# Altium schematic symbol library dungvh03-CERN_AnalogInterface.SchLib: 1053 symbols (part 2 of 12)
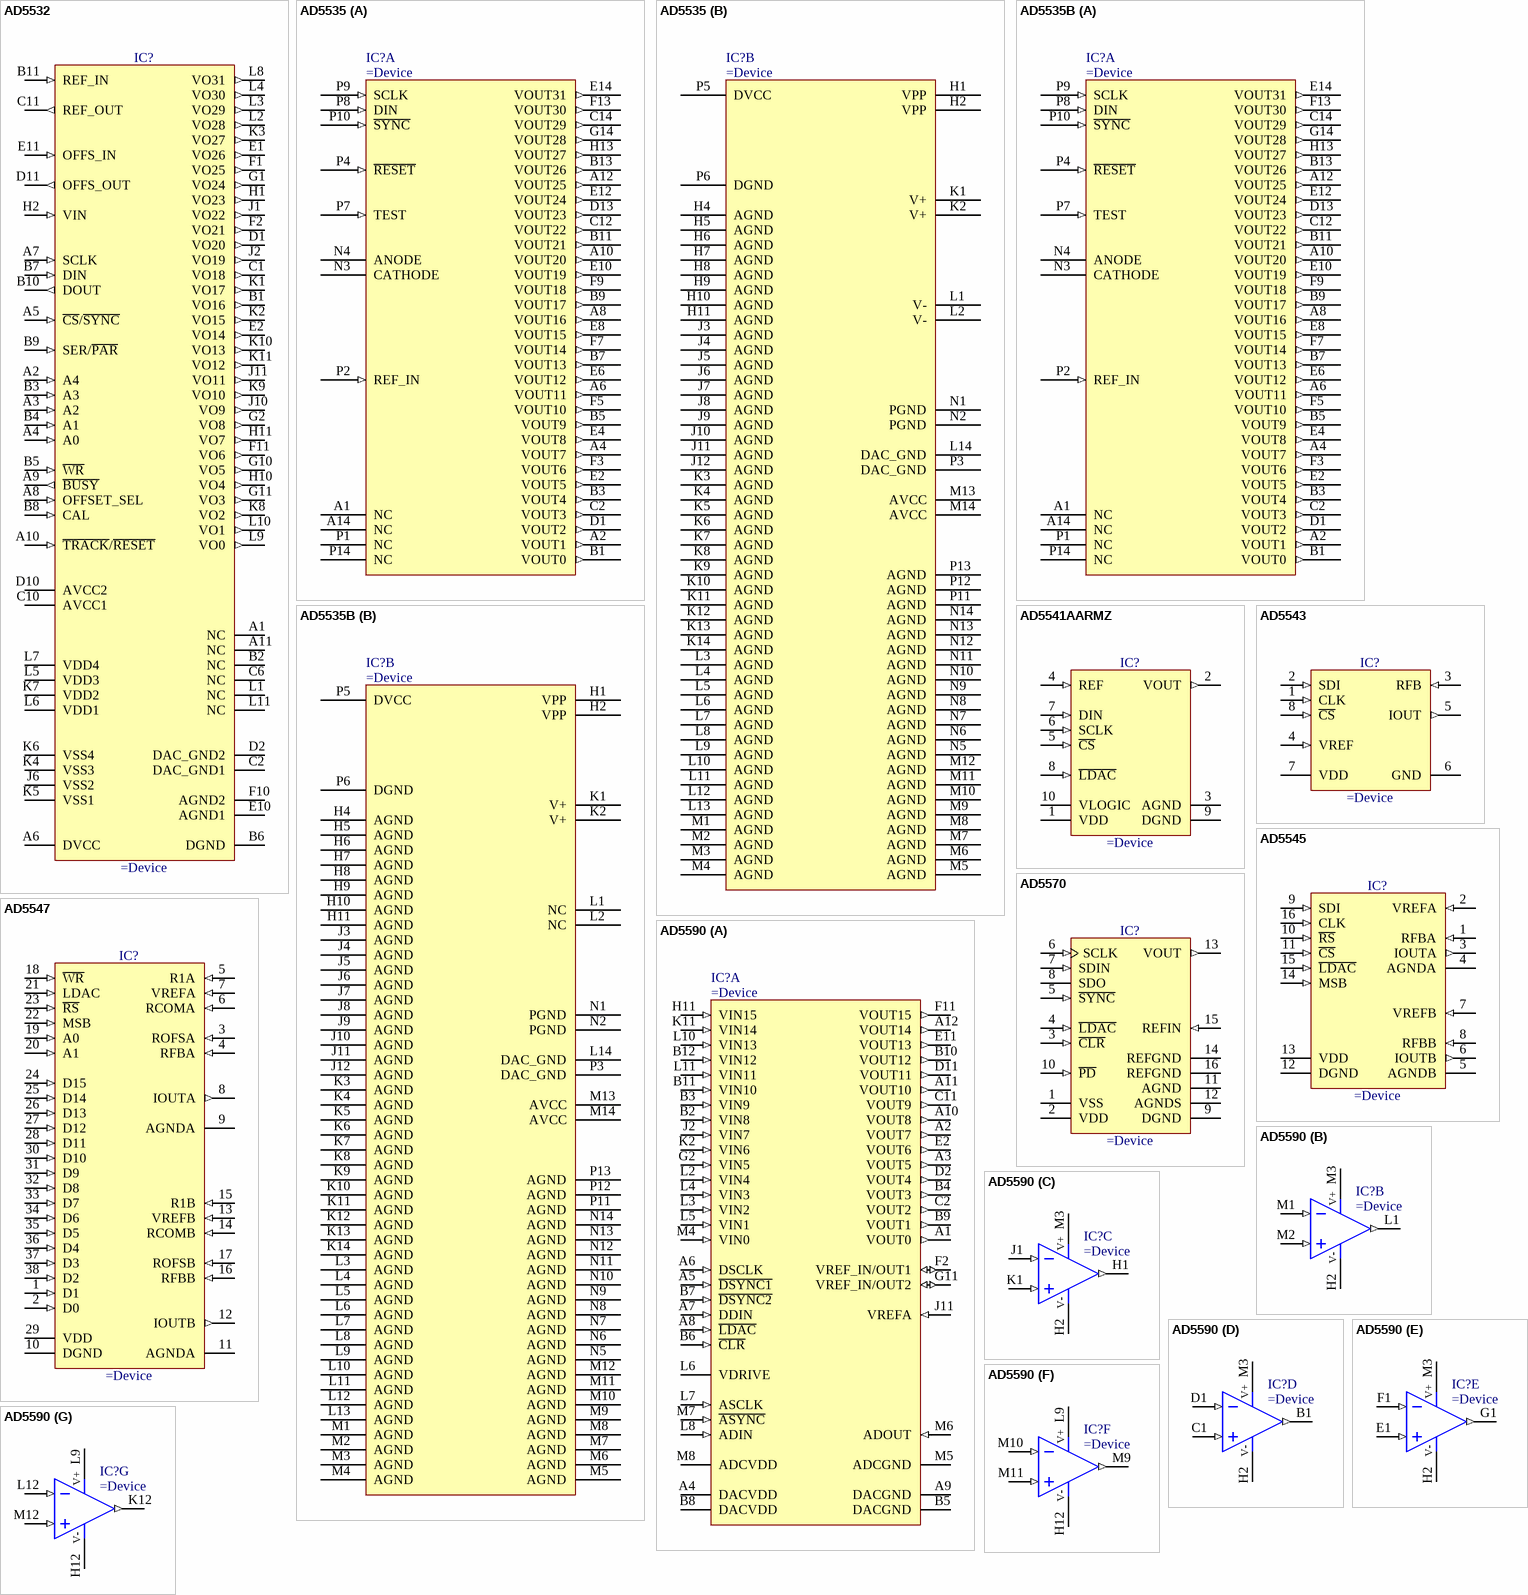
[diagram p68: symbols AD5532 to AD5590]

## AD5532
designator IC?
32-Channel, 14-Bit Voltage-Output DAC
pins: A1 NC, A2 A4 (in), A3 A2 (in), A4 A0 (in), A5 ~{CS}/~{SYNC} (in), A6 DVCC (power), A7 SCLK (in), A8 OFFSET_SEL (in), A9 ~{BUSY} (out), A10 ~{TRACK}/~{RESET} (in), A11 NC, B1 VO16 (out), B2 NC, B3 A3 (in), B4 A1 (in), B5 ~{WR} (in), B6 DGND (power), B7 DIN (in), B8 CAL (in), B9 SER/~{PAR} (in), B10 DOUT (out), B11 REF_IN (in), C1 VO18 (out), C2 DAC_GND1 (power), C6 NC, C10 AVCC1 (power), C11 REF_OUT (out), D1 VO20 (out), D2 DAC_GND2 (power), D10 AVCC2 (power), D11 OFFS_OUT (out), E1 VO26 (out), E2 VO14 (out), E10 AGND1 (power), E11 OFFS_IN (in), F1 VO25 (out), F2 VO21 (out), F10 AGND2 (power), F11 VO6 (out), G1 VO24 (out), G2 VO8 (out), G10 VO5 (out), G11 VO3 (out), H1 VO23 (out), H2 VIN (in), H10 VO4 (out), H11 VO7 (out), J1 VO22 (out), J2 VO19 (out), J6 VSS2 (power), J10 VO9 (out), J11 VO11 (out), K1 VO17 (out), K2 VO15 (out), K3 VO27 (out), K4 VSS3 (power), K5 VSS1 (power), K6 VSS4 (power), K7 VDD2 (power), K8 VO2 (out), K9 VO10 (out), K10 VO13 (out), K11 VO12 (out), L1 NC, L2 VO28 (out), L3 VO29 (out), L4 VO30 (out), L5 VDD3 (power), L6 VDD1 (power), L7 VDD4 (power), L8 VO31 (out), L9 VO0 (out), L10 VO1 (out), L11 NC

## AD5535
designator IC?
32-Channel, 14-Bit DAC with Full-Scale Output Voltage Programmable from 50V to 200V
part A pins: A1 NC, A2 VOUT1 (out), A4 VOUT7 (out), A6 VOUT11 (out), A8 VOUT16 (out), A10 VOUT20 (out), A12 VOUT25 (out), A14 NC, B1 VOUT0 (out), B3 VOUT4 (out), B5 VOUT9 (out), B7 VOUT13 (out), B9 VOUT17 (out), B11 VOUT21 (out), B13 VOUT26 (out), C2 VOUT3 (out), C12 VOUT22 (out), C14 VOUT29 (out), D1 VOUT2 (out), D13 VOUT23 (out), E2 VOUT5 (out), E4 VOUT8 (out), E6 VOUT12 (out), E8 VOUT15 (out), E10 VOUT19 (out), E12 VOUT24 (out), E14 VOUT31 (out), F3 VOUT6 (out), F5 VOUT10 (out), F7 VOUT14 (out), F9 VOUT18 (out), F13 VOUT30 (out), G14 VOUT28 (out), H13 VOUT27 (out), N3 CATHODE, N4 ANODE, P1 NC, P2 REF_IN (in), P4 ~{RESET} (in), P7 TEST (in), P8 DIN (in), P9 SCLK (in), P10 ~{SYNC} (in), P14 NC
part B pins: H1 VPP (power), H2 VPP (power), H4 AGND (power), H5 AGND (power), H6 AGND (power), H7 AGND (power), H8 AGND (power), H9 AGND (power), H10 AGND (power), H11 AGND (power), J3 AGND (power), J4 AGND (power), J5 AGND (power), J6 AGND (power), J7 AGND (power), J8 AGND (power), J9 AGND (power), J10 AGND (power), J11 AGND (power), J12 AGND (power), K1 V+ (power), K2 V+ (power), K3 AGND (power), K4 AGND (power), K5 AGND (power), K6 AGND (power), K7 AGND (power), K8 AGND (power), K9 AGND (power), K10 AGND (power), K11 AGND (power), K12 AGND (power), K13 AGND (power), K14 AGND (power), L1 V- (power), L2 V- (power), L3 AGND (power), L4 AGND (power), L5 AGND (power), L6 AGND (power), L7 AGND (power), L8 AGND (power), L9 AGND (power), L10 AGND (power), L11 AGND (power), L12 AGND (power), L13 AGND (power), L14 DAC_GND (power), M1 AGND (power), M2 AGND (power), M3 AGND (power), M4 AGND (power), M5 AGND (power), M6 AGND (power), M7 AGND (power), M8 AGND (power), M9 AGND (power), M10 AGND (power), M11 AGND (power), M12 AGND (power), M13 AVCC (power), M14 AVCC (power), N1 PGND (power), N2 PGND (power), N5 AGND (power), N6 AGND (power), N7 AGND (power), N8 AGND (power), N9 AGND (power), N10 AGND (power), N11 AGND (power), N12 AGND (power), N13 AGND (power), N14 AGND (power), P3 DAC_GND (power), P5 DVCC (power), P6 DGND (power), P11 AGND (power), P12 AGND (power), P13 AGND (power)

## AD5535B
designator IC?
32-Channel, 14-Bit DAC with Full-Scale Output Voltage Programmable from 50V to 200V
part A pins: A1 NC, A2 VOUT1 (out), A4 VOUT7 (out), A6 VOUT11 (out), A8 VOUT16 (out), A10 VOUT20 (out), A12 VOUT25 (out), A14 NC, B1 VOUT0 (out), B3 VOUT4 (out), B5 VOUT9 (out), B7 VOUT13 (out), B9 VOUT17 (out), B11 VOUT21 (out), B13 VOUT26 (out), C2 VOUT3 (out), C12 VOUT22 (out), C14 VOUT29 (out), D1 VOUT2 (out), D13 VOUT23 (out), E2 VOUT5 (out), E4 VOUT8 (out), E6 VOUT12 (out), E8 VOUT15 (out), E10 VOUT19 (out), E12 VOUT24 (out), E14 VOUT31 (out), F3 VOUT6 (out), F5 VOUT10 (out), F7 VOUT14 (out), F9 VOUT18 (out), F13 VOUT30 (out), G14 VOUT28 (out), H13 VOUT27 (out), N3 CATHODE, N4 ANODE, P1 NC, P2 REF_IN (in), P4 ~{RESET} (in), P7 TEST (in), P8 DIN (in), P9 SCLK (in), P10 ~{SYNC} (in), P14 NC
part B pins: H1 VPP (power), H2 VPP (power), H4 AGND (power), H5 AGND (power), H6 AGND (power), H7 AGND (power), H8 AGND (power), H9 AGND (power), H10 AGND (power), H11 AGND (power), J3 AGND (power), J4 AGND (power), J5 AGND (power), J6 AGND (power), J7 AGND (power), J8 AGND (power), J9 AGND (power), J10 AGND (power), J11 AGND (power), J12 AGND (power), K1 V+ (power), K2 V+ (power), K3 AGND (power), K4 AGND (power), K5 AGND (power), K6 AGND (power), K7 AGND (power), K8 AGND (power), K9 AGND (power), K10 AGND (power), K11 AGND (power), K12 AGND (power), K13 AGND (power), K14 AGND (power), L1 NC, L2 NC, L3 AGND (power), L4 AGND (power), L5 AGND (power), L6 AGND (power), L7 AGND (power), L8 AGND (power), L9 AGND (power), L10 AGND (power), L11 AGND (power), L12 AGND (power), L13 AGND (power), L14 DAC_GND (power), M1 AGND (power), M2 AGND (power), M3 AGND (power), M4 AGND (power), M5 AGND (power), M6 AGND (power), M7 AGND (power), M8 AGND (power), M9 AGND (power), M10 AGND (power), M11 AGND (power), M12 AGND (power), M13 AVCC (power), M14 AVCC (power), N1 PGND (power), N2 PGND (power), N5 AGND (power), N6 AGND (power), N7 AGND (power), N8 AGND (power), N9 AGND (power), N10 AGND (power), N11 AGND (power), N12 AGND (power), N13 AGND (power), N14 AGND (power), P3 DAC_GND (power), P5 DVCC (power), P6 DGND (power), P11 AGND (power), P12 AGND (power), P13 AGND (power)

## AD5541AARMZ
designator IC?
2.7 V to 5.5 V, Serial-Input, Voltage Output, Unbuffered 16-Bit DAC
pins: 1 VDD (power), 2 VOUT (out), 3 AGND (power), 4 REF (in), 5 ~{CS} (in), 6 SCLK (in), 7 DIN (in), 8 ~{LDAC} (in), 9 DGND (power), 10 VLOGIC (power)

## AD5543
designator IC?
Current Output/Serial Input, 16-Bit DAC
pins: 1 CLK (in), 2 SDI (in), 3 RFB (in), 4 VREF (in), 5 IOUT (out), 6 GND (power), 7 VDD (power), 8 ~{CS} (in)

## AD5545
designator IC?
Dual, Current-Output, Serial-Input, 16-Bit DAC
pins: 1 RFBA (in), 2 VREFA (in), 3 IOUTA (out), 4 AGNDA (power), 5 AGNDB (power), 6 IOUTB (out), 7 VREFB (in), 8 RFBB (in), 9 SDI (in), 10 ~{RS} (in), 11 ~{CS} (in), 12 DGND (power), 13 VDD (power), 14 MSB (in), 15 ~{LDAC} (in), 16 CLK (in)

## AD5547
designator IC?
Dual-Current Output, Parallel Input, 16-Bit Multiplying DAC with 4-Quadrant Resistors
pins: 1 D1 (in), 2 D0 (in), 3 ROFSA (in), 4 RFBA (in), 5 R1A (in), 6 RCOMA (in), 7 VREFA (in), 8 IOUTA (out), 9 AGNDA (power), 10 DGND (power), 11 AGNDA (power), 12 IOUTB (out), 13 VREFB (in), 14 RCOMB (in), 15 R1B (in), 16 RFBB (in), 17 ROFSB (in), 18 ~{WR} (in), 19 A0 (in), 20 A1 (in), 21 LDAC (in), 22 MSB (in), 23 ~{RS} (in), 24 D15 (in), 25 D14 (in), 26 D13 (in), 27 D12 (in), 28 D11 (in), 29 VDD (power), 30 D10 (in), 31 D9 (in), 32 D8 (in), 33 D7 (in), 34 D6 (in), 35 D5 (in), 36 D4 (in), 37 D3 (in), 38 D2 (in)

## AD5570
designator IC?
True Accuracy, 16-Bit ±12V/±15V, Serial Input Voltage Output DAC
pins: 1 VSS (power) "Negative Analog Supply Voltage. -12 V +/- 5% to -15 V +/- 10% for specified performance", 2 VDD (power) "Positive Analog Supply Voltage. 12 V +/- 5% to 15 V +/- 10% for specified performance", 3 ~{CLR} (in) "Level Sensitive, Active Low Input. A falling edge of C\L\R\ resets VOUT to AGND. The contents of the registers are untouched.", 4 ~{LDAC} (in) "Active Low Control Input. Transfers the contents of the input register to the DAC register. L\D\A\C\ can be tied permanently low, enabling the outputs to be updated on the rising edge of S\Y\N\C\.", 5 ~{SYNC} (in) "Active Low Control Input. This is the frame synchronization signal for the data. When S\Y\N\C\ goes low, it powers on the SCLK and SDIN buffers and enables the input shift register. Data is transferred in on the falling (See Datasheet)", 6 SCLK (in) "Serial Clock Input. Data is clocked into the input register on the falling edge of the serial clock input. Data can be transferred at rates of up to 8 MHz.", 7 SDIN (in) "Serial Data Input. Data is clocked into the 16-bit register on the falling edge of the serial clock input.", 8 SDO (oc) "Serial Data Output. Can be used for daisy-chaining a number of devices together or for reading back the data in the shift register for diagnostic purposes. This is an open-drain output; it must be pulled to logic high with (See Datasheet)", 9 DGND (power) "Digital Ground. Ground reference for all digital circuitry.", 10 ~{PD} (in) "Active Low Control Input. Allows the DAC to be put into a power-down state.", 11 AGND (power) "Analog Ground. Ground reference for all analog circuitry.", 12 AGNDS (power) "Analog Ground Sense. This is normally tied to AGND.", 13 VOUT (out) "Analog Output Voltage.", 14 REFGND (power) "Reference Ground. Tie this pin to 0 V.", 15 REFIN (in) "Voltage Reference Input. This is internally buffered before being applied to the DAC. For bipolar +/-10 V output range, REFIN is 5 V.", 16 REFGND (power) "Reference Ground. Tie this pin to 0 V."

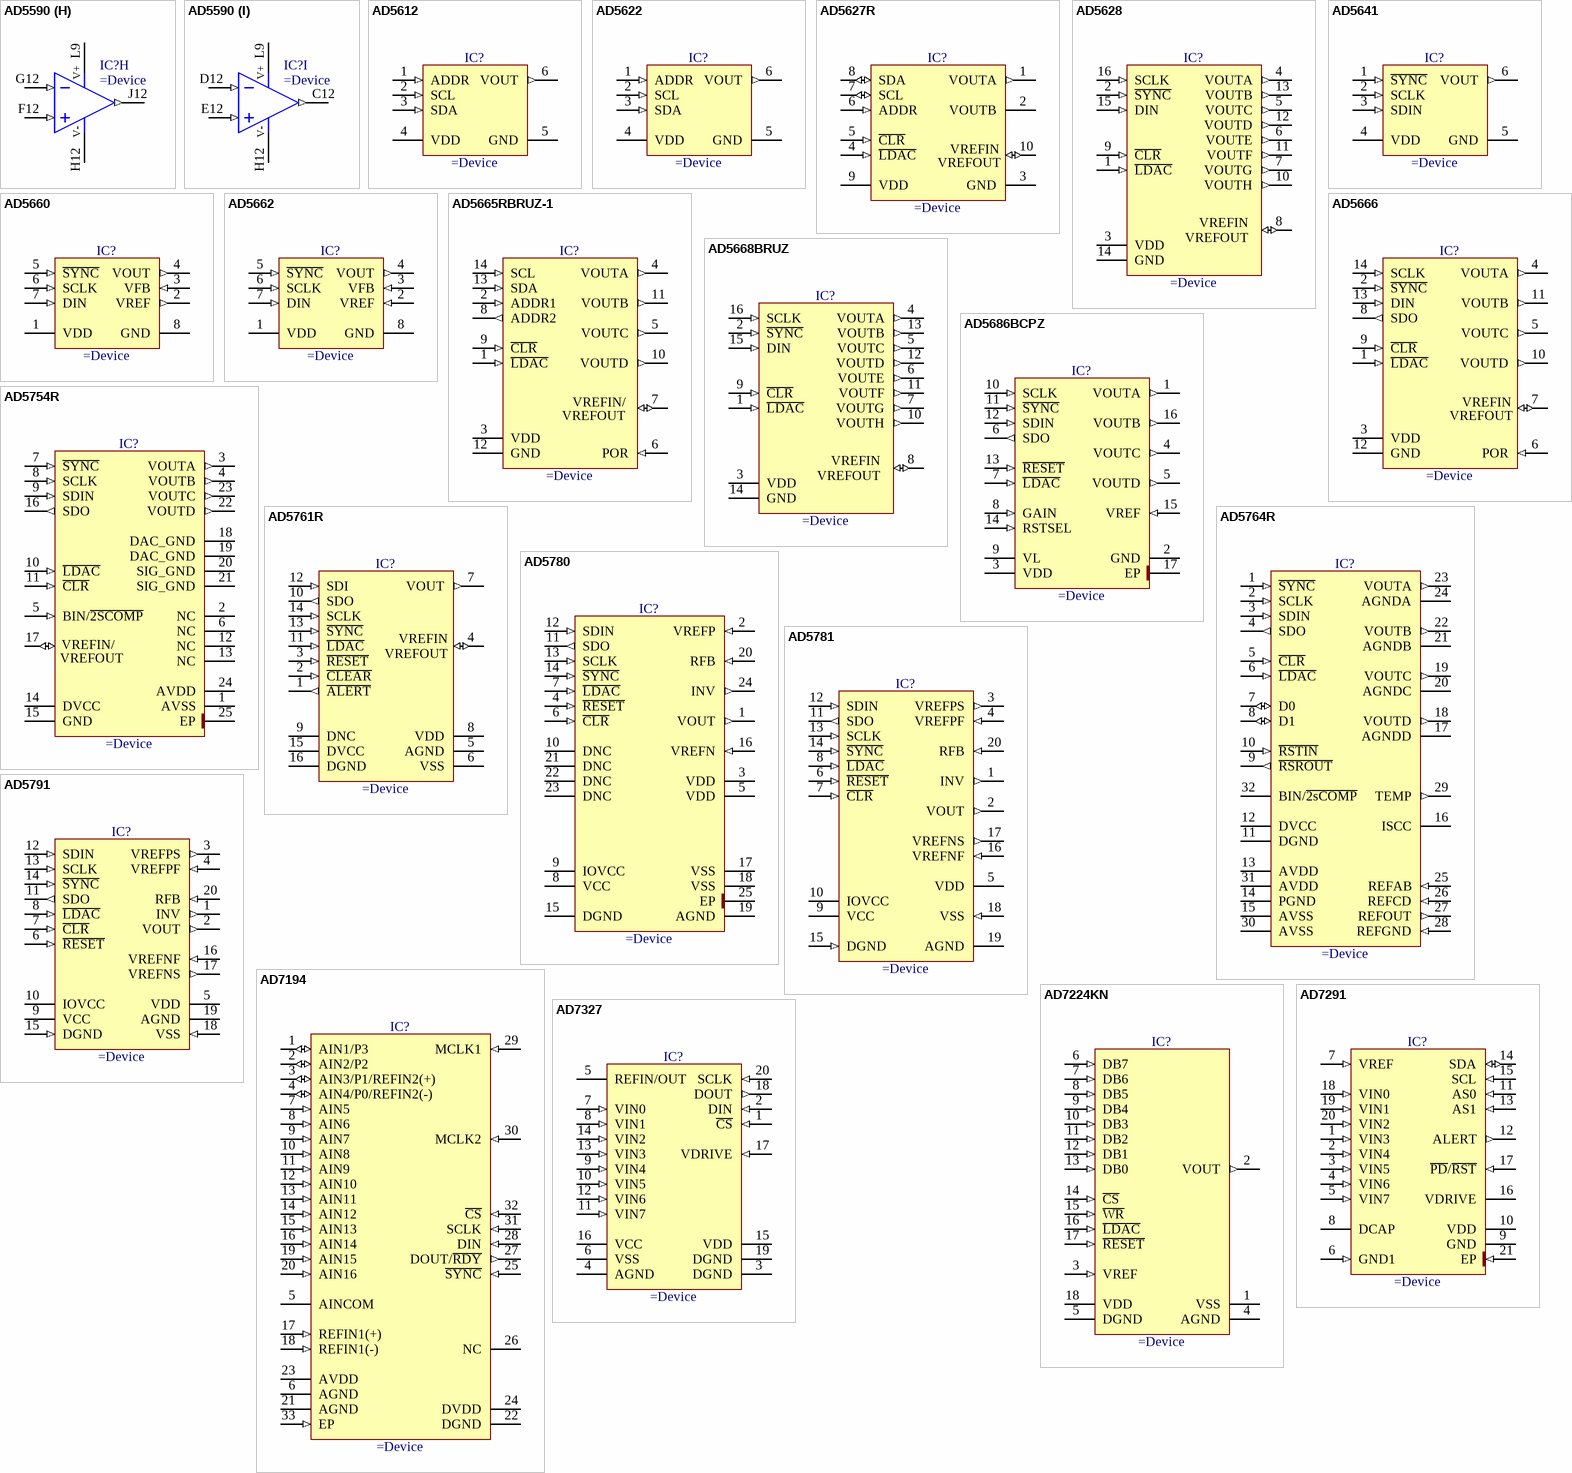
[diagram p5: symbols AD5590 to AD7327]

## AD5590
designator IC?
16 Input, 16 Output Analog I/O Port With Integrated Amplifiers
part A pins: A1 VOUT0 (out), A2 VOUT7 (out), A3 VOUT5 (out), A4 DACVDD (power), A5 ~{DSYNC1} (in), A6 DSCLK (in), A7 DDIN (in), A8 ~{LDAC} (in), A9 DACGND (power), A10 VOUT8 (out), A11 VOUT10 (out), A12 VOUT14 (out), B2 VIN8 (in), B3 VIN9 (in), B4 VOUT3 (out), B5 DACGND (power), B6 ~{CLR} (in), B7 ~{DSYNC2} (in), B8 DACVDD (power), B9 VOUT1 (out), B10 VOUT12 (out), B11 VIN10 (in), B12 VIN12 (in), C2 VOUT2 (out), C11 VOUT9 (out), D2 VOUT4 (out), D11 VOUT11 (out), E2 VOUT6 (out), E11 VOUT13 (out), F2 VREF_IN/OUT1 (io), F11 VOUT15 (out), G2 VIN5 (in), G11 VREF_IN/OUT2 (io), H11 VIN15 (in), J2 VIN7 (in), J11 VREFA (in), K2 VIN6 (in), K11 VIN14 (in), L2 VIN4 (in), L3 VIN2 (in), L4 VIN3 (in), L5 VIN1 (in), L6 VDRIVE (power), L7 ASCLK (in), L8 ADIN (in), L10 VIN13 (in), L11 VIN11 (in), M4 VIN0 (in), M5 ADCGND (power), M6 ADOUT (in), M7 ~{ASYNC} (in), M8 ADCVDD (power)
part B pins: H2 V1- (power), L1 OUT (out), M1 IN- (in), M2 IN+ (in), M3 V1+ (power)
part C pins: H1 OUT (out), H2 V1- (power), J1 IN- (in), K1 IN+ (in), M3 V1+ (power)
part D pins: B1 OUT (out), C1 IN+ (in), D1 IN- (in), H2 V1- (power), M3 V1+ (power)
part E pins: E1 IN+ (in), F1 IN- (in), G1 OUT (out), H2 V1- (power), M3 V1+ (power)
part F pins: H12 V2- (power), L9 V2+ (power), M9 OUT (out), M10 IN- (in), M11 IN+ (in)
part G pins: H12 V2- (power), K12 OUT (out), L9 V2+ (power), L12 IN- (in), M12 IN+ (in)
part H pins: F12 IN+ (in), G12 IN- (in), H12 V2- (power), J12 OUT (out), L9 V2+ (power)
part I pins: C12 OUT (out), D12 IN- (in), E12 IN+ (in), H12 V2- (power), L9 V2+ (power)
part B text: V+; V-
part C text: V+; V-
part D text: V+; V-
part E text: V+; V-
part F text: V+; V-
part G text: V+; V-
part H text: V+; V-
part I text: V+; V-

## AD5612
designator IC?
2.7 V to 5.5 V, <100 µA, 10-Bit nanoDAC, With I2C®-Compatible Interface
pins: 1 ADDR (in), 2 SCL (in), 3 SDA (in), 4 VDD (power), 5 GND (power), 6 VOUT (out)

## AD5622
designator IC?
2.7 V to 5.5 V, <100 µA, 12-Bit nanoDAC, With I2C®-Compatible Interface
pins: 1 ADDR (in), 2 SCL (in), 3 SDA (in), 4 VDD (power), 5 GND (power), 6 VOUT (out)

## AD5627R
designator IC?
Dual, 12-/14-/16-Bit nanoDACs® with 5 ppm/°C On-Chip Reference, I2C Interface
pins: 1 VOUTA (out), 2 VOUTB (power), 3 GND (power), 4 ~{LDAC} (in), 5 ~{CLR} (in), 6 ADDR (in), 7 SCL (io), 8 SDA (io), 9 VDD (power), 10 VREFIN/VREFOUT (io)
text: VREFIN; VREFOUT

## AD5628
designator IC?
Octal, 12-Bit SPI Voltage Output denseDAC with 5 ppm/°C On-Chip Reference
pins: 1 ~{LDAC} (in), 2 ~{SYNC} (in), 3 VDD (power), 4 VOUTA (out), 5 VOUTC (out), 6 VOUTE (out), 7 VOUTG (out), 8 VREFIN/VREFOUT (io), 9 ~{CLR} (in), 10 VOUTH (out), 11 VOUTF (out), 12 VOUTD (out), 13 VOUTB (out), 14 GND (power), 15 DIN (in), 16 SCLK (in)
text: VREFIN; VREFOUT

## AD5641
designator IC?
2.7 V to 5.5 V, <100 µA, 14-Bit nanoDAC, SPI Interface
pins: 1 ~{SYNC} (in), 2 SCLK (in), 3 SDIN (in), 4 VDD (power), 5 GND (power), 6 VOUT (out)

## AD5660
designator IC?
Single, 16-Bit nanoDAC with 5ppm/°C On-Chip Reference
pins: 1 VDD (power), 2 VREF (out), 3 VFB (in), 4 VOUT (out), 5 ~{SYNC} (in), 6 SCLK (in), 7 DIN (in), 8 GND (power)

## AD5662
designator IC?
2.7V to 5.5V, 250uA, Rail-to-Rail Output 16-Bit nanoDAC
pins: 1 VDD (power), 2 VREF (in), 3 VFB (in), 4 VOUT (out), 5 ~{SYNC} (in), 6 SCLK (in), 7 DIN (in), 8 GND (power)

## AD5665RBRUZ-1
designator IC?
Quad, 16-Bit DAC with 5 ppm/°C On-Chip Reference, I2C Interface
pins: 1 ~{LDAC} (in), 2 ADDR1 (in), 3 VDD (power), 4 VOUTA (out), 5 VOUTC (out), 6 POR (in), 7 VREFIN/VREFOUT (io), 8 ADDR2 (out), 9 ~{CLR} (in), 10 VOUTD (out), 11 VOUTB (out), 12 GND (power), 13 SDA (in), 14 SCL (in)
text: VREFIN/; VREFOUT

## AD5666
designator IC?
Quad, 16-Bit DAC with 5 ppm/°C On-Chip Reference
pins: 1 ~{LDAC} (in), 2 ~{SYNC} (in), 3 VDD (power), 4 VOUTA (out), 5 VOUTC (out), 6 POR (in), 7 VREFIN/VREFOUT (io), 8 SDO (out), 9 ~{CLR} (in), 10 VOUTD (out), 11 VOUTB (out), 12 GND (power), 13 DIN (in), 14 SCLK (in)
text: VREFIN; VREFOUT

## AD5668BRUZ
designator IC?
Octal, 16-Bit, SPI Voltage Output denseDAC with 5ppm/°C, On-Chip Reference
pins: 1 ~{LDAC} (in), 2 ~{SYNC} (in), 3 VDD (power), 4 VOUTA (out), 5 VOUTC (out), 6 VOUTE (out), 7 VOUTG (out), 8 VREFIN/VREFOUT (io), 9 ~{CLR} (in), 10 VOUTH (out), 11 VOUTF (out), 12 VOUTD (out), 13 VOUTB (out), 14 GND (power), 15 DIN (in), 16 SCLK (in)
text: VREFIN; VREFOUT

## AD5686BCPZ
designator IC?
Quad, 16-Bit nanoDAC+ with SPI Interface
pins: 1 VOUTA (out), 2 GND (power), 3 VDD (power), 4 VOUTC (out), 5 VOUTD (out), 6 SDO (out), 7 ~{LDAC} (in), 8 GAIN (in), 9 VL (power), 10 SCLK (in), 11 ~{SYNC} (in), 12 SDIN (in), 13 ~{RESET} (in), 14 RSTSEL (in), 15 VREF (in), 16 VOUTB (out), 17 EP (power)

## AD5754R
designator IC?
Complete, Quad, 16-Bit Serial Input Unipolar/Bipolar Voltage Outputs DAC
pins: 1 AVSS (power), 2 NC, 3 VOUTA (out), 4 VOUTB (out), 5 BIN/~{2SCOMP} (in), 6 NC, 7 ~{SYNC} (in), 8 SCLK (in), 9 SDIN (in), 10 ~{LDAC} (in), 11 ~{CLR} (in), 12 NC, 13 NC, 14 DVCC (power), 15 GND (power), 16 SDO (out), 17 REFIN/REFOUT (io), 18 DAC_GND (power), 19 DAC_GND (power), 20 SIG_GND (power), 21 SIG_GND (power), 22 VOUTD (out), 23 VOUTC (out), 24 AVDD (power), 25 EP (power)
text: VREFIN/; VREFOUT

## AD5761R
designator IC?
16-Bit, Bipolar/Unipolar Voltage Output DACs with 2 ppm/°C Reference
pins: 1 ~{ALERT} (out), 2 ~{CLEAR} (in), 3 ~{RESET} (in), 4 VREFIN/VREFOUT (io), 5 AGND (power), 6 VSS (power), 7 VOUT (out), 8 VDD (power), 9 DNC, 10 SDO (out), 11 ~{LDAC} (in), 12 SDI (in), 13 ~{SYNC} (in), 14 SCLK (in), 15 DVCC (power), 16 DGND (power)
text: VREFIN; VREFOUT

## AD5764R
designator IC?
Complete Quad, 16-Bit, High Accuracy, Serial Input, Bipolar Voltage Output DAC
pins: 1 ~{SYNC} (in), 2 SCLK (in), 3 SDIN (in), 4 SDO (out), 5 ~{CLR} (in), 6 ~{LDAC} (in), 7 D0 (io), 8 D1 (io), 9 ~{RSROUT} (out), 10 ~{RSTIN} (in), 11 DGND (power), 12 DVCC (power), 13 AVDD (power), 14 PGND (power), 15 AVSS (power), 16 ISCC (power), 17 AGNDD (power), 18 VOUTD (out), 19 VOUTC (out), 20 AGNDC (power), 21 AGNDB (power), 22 VOUTB (out), 23 VOUTA (out), 24 AGNDA (power), 25 REFAB (in), 26 REFCD (in), 27 REFOUT (out), 28 REFGND (in), 29 TEMP (out), 30 AVSS (power), 31 AVDD (power), 32 BIN/~{2sCOMP} (power)

## AD5780
designator IC?
System Ready, 18-Bit ±1 LSB INL, Voltage Output DAC
pins: 1 VOUT (out), 2 VREFP (in), 3 VDD (power), 4 ~{RESET} (in), 5 VDD (power), 6 ~{CLR} (in), 7 ~{LDAC} (in), 8 VCC (power), 9 IOVCC (power), 10 DNC, 11 SDO (out), 12 SDIN (in), 13 SCLK (in), 14 ~{SYNC} (in), 15 DGND (power), 16 VREFN (in), 17 VSS (power), 18 VSS (power), 19 AGND (power), 20 RFB (in), 21 DNC, 22 DNC, 23 DNC, 24 INV (out), 25 EP (power)

## AD5781
designator IC?
True 18-Bit, ±0.5 LSB INL, ±0.5 LSB DNL, Voltage Output DAC
pins: 1 INV (out), 2 VOUT (out), 3 VREFPS (out), 4 VREFPF (in), 5 VDD (power), 6 ~{RESET} (in), 7 ~{CLR} (in), 8 ~{LDAC} (in), 9 VCC (power), 10 IOVCC (power), 11 SDO (out), 12 SDIN (in), 13 SCLK (in), 14 ~{SYNC} (in), 15 DGND (in), 16 VREFNF (in), 17 VREFNS (out), 18 VSS (in), 19 AGND (power), 20 RFB (in)

## AD5791
designator IC?
1 ppm 20-Bit, ±1 LSB INL, Voltage Output DAC
pins: 1 INV (out), 2 VOUT (out), 3 VREFPS (out), 4 VREFPF (in), 5 VDD (power), 6 ~{RESET} (in), 7 ~{CLR} (in), 8 ~{LDAC} (in), 9 VCC (power), 10 IOVCC (power), 11 SDO (out), 12 SDIN (in), 13 SCLK (in), 14 ~{SYNC} (in), 15 DGND (in), 16 VREFNF (in), 17 VREFNS (out), 18 VSS (in), 19 AGND (power), 20 RFB (in)

## AD7194
designator IC?
8-Channel, 4.8 kHz, Ultralow Noise, 24-Bit Sigma-Delta ADC with PGA
pins: 1 AIN1/P3 (io), 2 AIN2/P2 (io), 3 AIN3/P1/REFIN2(+) (io), 4 AIN4/P0/REFIN2(-) (io), 5 AINCOM (power), 6 AGND (power), 7 AIN5 (in), 8 AIN6 (in), 9 AIN7 (in), 10 AIN8 (in), 11 AIN9 (in), 12 AIN10 (in), 13 AIN11 (in), 14 AIN12 (in), 15 AIN13 (in), 16 AIN14 (in), 17 REFIN1(+) (in), 18 REFIN1(-) (in), 19 AIN15 (in), 20 AIN16 (in), 21 AGND (power), 22 DGND (power), 23 AVDD (power), 24 DVDD (power), 25 ~{SYNC} (in), 26 NC, 27 DOUT/~{RDY} (out), 28 DIN (in), 29 MCLK1 (in), 30 MCLK2 (in), 31 SCLK (in), 32 ~{CS} (in), 33 EP (in)

## AD7224KN
designator IC?
LC2MOS 8-Bit DAC with Output Amplifiers
pins: 1 VSS (power), 2 VOUT (out), 3 VREF (in), 4 AGND (power), 5 DGND (power), 6 DB7 (in), 7 DB6 (in), 8 DB5 (in), 9 DB4 (in), 10 DB3 (in), 11 DB2 (in), 12 DB1 (in), 13 DB0 (in), 14 ~{CS} (in), 15 ~{WR} (in), 16 ~{LDAC} (in), 17 ~{RESET} (in), 18 VDD (power)

## AD7291
designator IC?
8-Channel, I2C, 12-Bit SAR ADC with Temperature Sensor
pins: 1 VIN3 (in), 2 VIN4 (in), 3 VIN5 (in), 4 VIN6 (in), 5 VIN7 (in), 6 GND1 (in), 7 VREF (in), 8 DCAP, 9 GND (power), 10 VDD (power), 11 AS0 (in), 12 ALERT (out), 13 AS1 (in), 14 SDA (io), 15 SCL (in), 16 VDRIVE (power), 17 ~{PD}/~{RST} (in), 18 VIN0 (in), 19 VIN1 (in), 20 VIN2 (in), 21 EP (in)

## AD7327
designator IC?
500 kSPS, 8-Channel, Software-Selectable, True Bipolar Input, 12-Bit Plus Sign ADC
pins: 1 ~{CS} (in), 2 DIN (in), 3 DGND (power), 4 AGND (power), 5 REFIN/OUT, 6 VSS (power), 7 VIN0 (in), 8 VIN1 (in), 9 VIN4 (in), 10 VIN5 (in), 11 VIN7 (in), 12 VIN6 (in), 13 VIN3 (in), 14 VIN2 (in), 15 VDD (power), 16 VCC (power), 17 VDRIVE (in), 18 DOUT (out), 19 DGND (power), 20 SCLK (in)

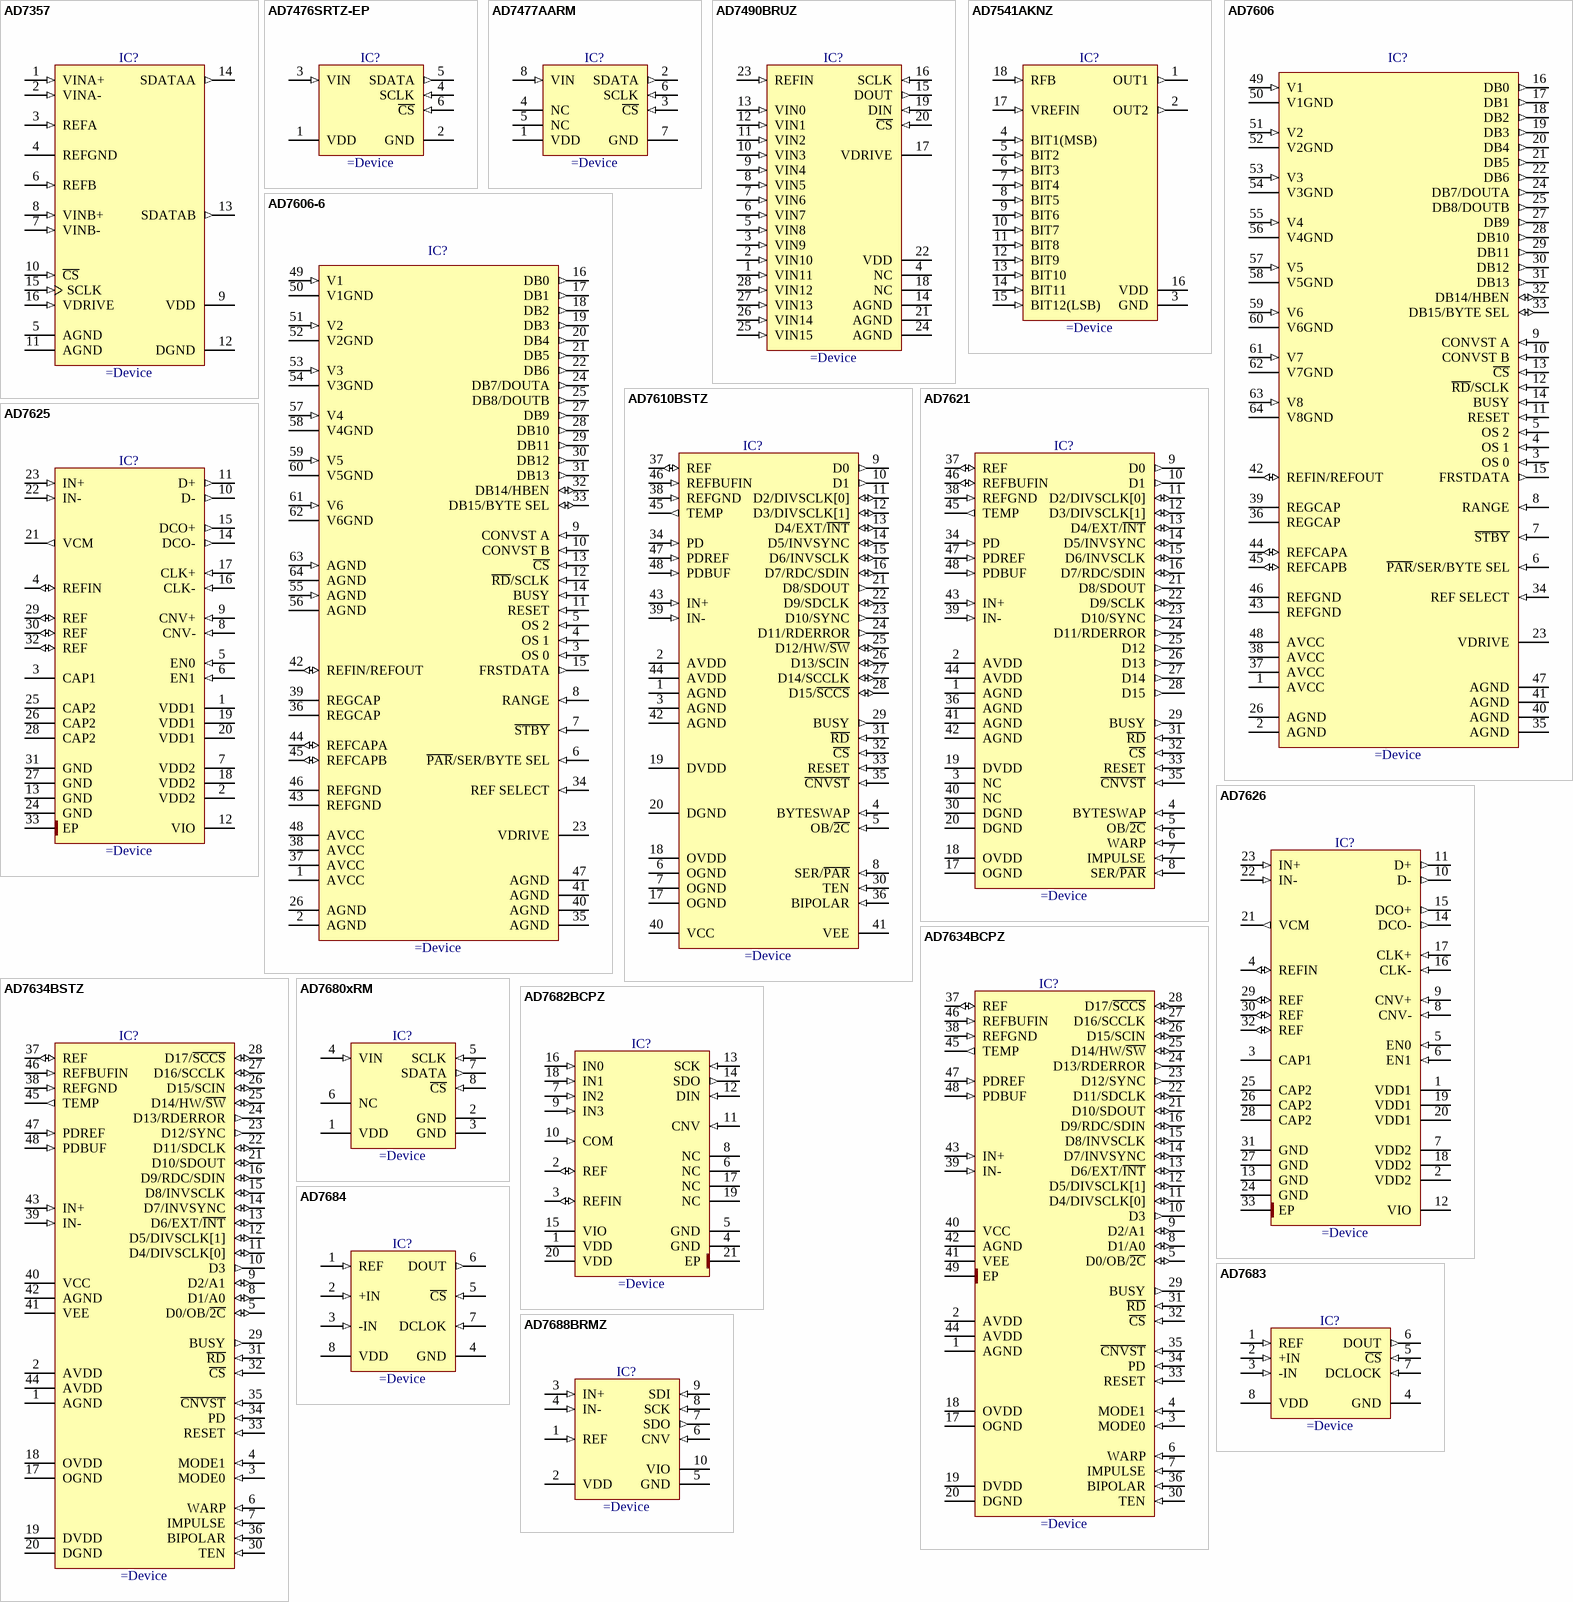
[diagram p6: symbols AD7357 to AD7688BRMZ]

## AD7357
designator IC?
Differential Input, Dual, Simultaneaous Sampling, 4.2 MSPS, 14-bit, SAR ADC
pins: 1 VINA+ (in), 2 VINA- (in), 3 REFA (in), 4 REFGND (power), 5 AGND (power), 6 REFB (in), 7 VINB- (in), 8 VINB+ (in), 9 VDD (power), 10 ~{CS} (in), 11 AGND (power), 12 DGND (power), 13 SDATAB (out), 14 SDATAA (out), 15 SCLK (in), 16 VDRIVE (in)

## AD7476SRTZ-EP
designator IC?
12-Bit ADC in 6-Lead SOT-23
pins: 1 VDD (power), 2 GND (power), 3 VIN (in), 4 SCLK (in), 5 SDATA (out), 6 ~{CS} (in)

## AD7477AARM
designator IC?
2.35V to 5.25V, 1 MSPS, 10-Bit ADC  (INL: ±0.5 LSB Max)
pins: 1 VDD (power), 2 SDATA (out), 3 ~{CS} (in), 4 NC, 5 NC, 6 SCLK (in), 7 GND (power), 8 VIN (in)

## AD7490BRUZ
designator IC?
16-Channel, 1 MSPS, 12-Bit ADC With Sequencer
pins: 1 VIN11 (in), 2 VIN10 (in), 3 VIN9 (in), 4 NC, 5 VIN8 (in), 6 VIN7 (in), 7 VIN6 (in), 8 VIN5 (in), 9 VIN4 (in), 10 VIN3 (in), 11 VIN2 (in), 12 VIN1 (in), 13 VIN0 (in), 14 AGND (power), 15 DOUT (out), 16 SCLK (in), 17 VDRIVE (power), 18 NC, 19 DIN (in), 20 ~{CS} (in), 21 AGND (power), 22 VDD (power), 23 REFIN (in), 24 AGND (power), 25 VIN15 (in), 26 VIN14 (in), 27 VIN13 (in), 28 VIN12 (in)

## AD7541AKNZ
designator IC?
12-Bit Monolithic Multiplying DAC
pins: 1 OUT1 (out), 2 OUT2 (out), 3 GND (power), 4 BIT1(MSB) (in), 5 BIT2 (in), 6 BIT3 (in), 7 BIT4 (in), 8 BIT5 (in), 9 BIT6 (in), 10 BIT7 (in), 11 BIT8 (in), 12 BIT9 (in), 13 BIT10 (in), 14 BIT11 (in), 15 BIT12(LSB) (in), 16 VDD (power), 17 VREFIN (in), 18 RFB (in)

## AD7606
designator IC?
8-Channel DAS with 16-Bit, Bipolar Simultaneous Sampling ADC
pins: 1 AVCC (power), 2 AGND (power), 3 OS 0 (in), 4 OS 1 (in), 5 OS 2 (in), 6 ~{PAR}/SER/BYTE SEL (in), 7 ~{STBY} (in), 8 RANGE (in), 9 CONVST A (in), 10 CONVST B (in), 11 RESET (in), 12 ~{RD}/SCLK (in), 13 ~{CS} (in), 14 BUSY (in), 15 FRSTDATA (out), 16 DB0 (out), 17 DB1 (out), 18 DB2 (out), 19 DB3 (out), 20 DB4 (out), 21 DB5 (out), 22 DB6 (out), 23 VDRIVE (power), 24 DB7/DOUTA (out), 25 DB8/DOUTB (out), 26 AGND (power), 27 DB9 (out), 28 DB10 (out), 29 DB11 (out), 30 DB12 (out), 31 DB13 (out), 32 DB14/HBEN (io), 33 DB15/BYTE SEL (io), 34 REF SELECT (in), 35 AGND (power), 36 REGCAP (power), 37 AVCC (power), 38 AVCC (power), 39 REGCAP (power), 40 AGND (power), 41 AGND (power), 42 REFIN/REFOUT (io), 43 REFGND (power), 44 REFCAPA (io), 45 REFCAPB (io), 46 REFGND (power), 47 AGND (power), 48 AVCC (power), 49 V1 (in), 50 V1GND (power), 51 V2 (in), 52 V2GND (power), 53 V3 (in), 54 V3GND (power), 55 V4 (in), 56 V4GND (power), 57 V5 (in), 58 V5GND (power), 59 V6 (in), 60 V6GND (power), 61 V7 (in), 62 V7GND (power), 63 V8 (in), 64 V8GND (power)

## AD7606-6
designator IC?
6-Channel DAS with 16-Bit, Bipolar Simultaneous Sampling ADC
pins: 1 AVCC (power), 2 AGND (power), 3 OS 0 (in), 4 OS 1 (in), 5 OS 2 (in), 6 ~{PAR}/SER/BYTE SEL (in), 7 ~{STBY} (in), 8 RANGE (in), 9 CONVST A (in), 10 CONVST B (in), 11 RESET (in), 12 ~{RD}/SCLK (in), 13 ~{CS} (in), 14 BUSY (in), 15 FRSTDATA (out), 16 DB0 (out), 17 DB1 (out), 18 DB2 (out), 19 DB3 (out), 20 DB4 (out), 21 DB5 (out), 22 DB6 (out), 23 VDRIVE (power), 24 DB7/DOUTA (out), 25 DB8/DOUTB (out), 26 AGND (power), 27 DB9 (out), 28 DB10 (out), 29 DB11 (out), 30 DB12 (out), 31 DB13 (out), 32 DB14/HBEN (io), 33 DB15/BYTE SEL (io), 34 REF SELECT (in), 35 AGND (power), 36 REGCAP (power), 37 AVCC (power), 38 AVCC (power), 39 REGCAP (power), 40 AGND (power), 41 AGND (power), 42 REFIN/REFOUT (io), 43 REFGND (power), 44 REFCAPA (io), 45 REFCAPB (io), 46 REFGND (power), 47 AGND (power), 48 AVCC (power), 49 V1 (in), 50 V1GND (power), 51 V2 (in), 52 V2GND (power), 53 V3 (in), 54 V3GND (power), 55 AGND (in), 56 AGND (power), 57 V4 (in), 58 V4GND (power), 59 V5 (in), 60 V5GND (power), 61 V6 (in), 62 V6GND (power), 63 AGND (in), 64 AGND (power)

## AD7610BSTZ
designator IC?
16-Bit, 250 kSPS, Unipolar/Bipolar Programmable Input PulSAR® ADC
pins: 1 AGND (power), 2 AVDD (power), 3 AGND (power), 4 BYTESWAP (in), 5 OB/~{2C} (in), 6 OGND (power), 7 OGND (power), 8 SER/~{PAR} (in), 9 D0 (out), 10 D1 (out), 11 D2/DIVSCLK[0] (io), 12 D3/DIVSCLK[1] (io), 13 D4/EXT/~{INT} (io), 14 D5/INVSYNC (io), 15 D6/INVSCLK (io), 16 D7/RDC/SDIN (io), 17 OGND (power), 18 OVDD (power), 19 DVDD (power), 20 DGND (power), 21 D8/SDOUT (out), 22 D9/SDCLK (io), 23 D10/SYNC (out), 24 D11/RDERROR (out), 25 D12/HW/~{SW} (io), 26 D13/SCIN (io), 27 D14/SCCLK (io), 28 D15/~{SCCS} (io), 29 BUSY (out), 30 TEN (in), 31 ~{RD} (in), 32 ~{CS} (in), 33 RESET (in), 34 PD (in), 35 ~{CNVST} (in), 36 BIPOLAR (in), 37 REF (io), 38 REFGND (in), 39 IN- (in), 40 VCC (power), 41 VEE (power), 42 AGND (power), 43 IN+ (in), 44 AVDD (power), 45 TEMP (out), 46 REFBUFIN (in), 47 PDREF (in), 48 PDBUF (in)

## AD7621
designator IC?
16-Bit, 2 LSB INL, 3 MSPS PulSAR® ADC
pins: 1 AGND (power), 2 AVDD (power), 3 NC, 4 BYTESWAP (in), 5 OB/~{2C} (in), 6 WARP (in), 7 IMPULSE (in), 8 SER/~{PAR} (in), 9 D0 (out), 10 D1 (out), 11 D2/DIVSCLK[0] (io), 12 D3/DIVSCLK[1] (io), 13 D4/EXT/~{INT} (io), 14 D5/INVSYNC (io), 15 D6/INVSCLK (io), 16 D7/RDC/SDIN (io), 17 OGND (power), 18 OVDD (power), 19 DVDD (power), 20 DGND (power), 21 D8/SDOUT (out), 22 D9/SCLK (io), 23 D10/SYNC (out), 24 D11/RDERROR (out), 25 D12 (out), 26 D13 (out), 27 D14 (out), 28 D15 (out), 29 BUSY (out), 30 DGND (power), 31 ~{RD} (in), 32 ~{CS} (in), 33 RESET (in), 34 PD (in), 35 ~{CNVST} (in), 36 AGND (power), 37 REF (io), 38 REFGND (in), 39 IN- (in), 40 NC, 41 AGND (power), 42 AGND (power), 43 IN+ (in), 44 AVDD (power), 45 TEMP (out), 46 REFBUFIN (io), 47 PDREF (in), 48 PDBUF (in)

## AD7625
designator IC?
16-Bit, 6 MSPS, PulSAR Differential ADC
pins: 1 VDD1 (power), 2 VDD2 (power), 3 CAP1, 4 REFIN (io), 5 EN0 (in), 6 EN1 (in), 7 VDD2 (power), 8 CNV- (in), 9 CNV+ (in), 10 D- (out), 11 D+ (out), 12 VIO (power), 13 GND (power), 14 DCO- (out), 15 DCO+ (out), 16 CLK- (in), 17 CLK+ (in), 18 VDD2 (power), 19 VDD1 (power), 20 VDD1 (power), 21 VCM (out), 22 IN- (in), 23 IN+ (in), 24 GND (power), 25 CAP2, 26 CAP2, 27 GND (power), 28 CAP2, 29 REF (io), 30 REF (io), 31 GND (power), 32 REF (io), 33 EP (power)

## AD7626
designator IC?
16-Bit, 10 MSPS, PulSAR Differential ADC
pins: 1 VDD1 (power), 2 VDD2 (power), 3 CAP1, 4 REFIN (io), 5 EN0 (in), 6 EN1 (in), 7 VDD2 (power), 8 CNV- (in), 9 CNV+ (in), 10 D- (out), 11 D+ (out), 12 VIO (power), 13 GND (power), 14 DCO- (out), 15 DCO+ (out), 16 CLK- (in), 17 CLK+ (in), 18 VDD2 (power), 19 VDD1 (power), 20 VDD1 (power), 21 VCM (out), 22 IN- (in), 23 IN+ (in), 24 GND (power), 25 CAP2, 26 CAP2, 27 GND (power), 28 CAP2, 29 REF (io), 30 REF (io), 31 GND (power), 32 REF (io), 33 EP (power)

## AD7634BCPZ
designator IC?
18-Bit, 670 kSPS, Differential Programmable Input PulSAR® ADC
pins: 1 AGND (power), 2 AVDD (power), 3 MODE0 (in), 4 MODE1 (in), 5 D0/OB/~{2C} (io), 6 WARP (in), 7 IMPULSE (in), 8 D1/A0 (io), 9 D2/A1 (io), 10 D3 (out), 11 D4/DIVSCLK[0] (io), 12 D5/DIVSCLK[1] (io), 13 D6/EXT/~{INT} (io), 14 D7/INVSYNC (io), 15 D8/INVSCLK (io), 16 D9/RDC/SDIN (io), 17 OGND (power), 18 OVDD (power), 19 DVDD (power), 20 DGND (power), 21 D10/SDOUT (io), 22 D11/SDCLK (io), 23 D12/SYNC (out), 24 D13/RDERROR (out), 25 D14/HW/~{SW} (io), 26 D15/SCIN (io), 27 D16/SCCLK (io), 28 D17/~{SCCS} (io), 29 BUSY (out), 30 TEN (in), 31 ~{RD} (in), 32 ~{CS} (in), 33 RESET (in), 34 PD (in), 35 ~{CNVST} (in), 36 BIPOLAR (in), 37 REF (io), 38 REFGND (in), 39 IN- (in), 40 VCC (power), 41 VEE (power), 42 AGND (power), 43 IN+ (in), 44 AVDD (power), 45 TEMP (out), 46 REFBUFIN (in), 47 PDREF (in), 48 PDBUF (in), 49 EP (power)

## AD7634BSTZ
designator IC?
18-Bit, 670 kSPS, Differential Programmable Input PulSAR® ADC
pins: 1 AGND (power), 2 AVDD (power), 3 MODE0 (in), 4 MODE1 (in), 5 D0/OB/~{2C} (io), 6 WARP (in), 7 IMPULSE (in), 8 D1/A0 (io), 9 D2/A1 (io), 10 D3 (out), 11 D4/DIVSCLK[0] (io), 12 D5/DIVSCLK[1] (io), 13 D6/EXT/~{INT} (io), 14 D7/INVSYNC (io), 15 D8/INVSCLK (io), 16 D9/RDC/SDIN (io), 17 OGND (power), 18 OVDD (power), 19 DVDD (power), 20 DGND (power), 21 D10/SDOUT (io), 22 D11/SDCLK (io), 23 D12/SYNC (out), 24 D13/RDERROR (out), 25 D14/HW/~{SW} (io), 26 D15/SCIN (io), 27 D16/SCCLK (io), 28 D17/~{SCCS} (io), 29 BUSY (out), 30 TEN (in), 31 ~{RD} (in), 32 ~{CS} (in), 33 RESET (in), 34 PD (in), 35 ~{CNVST} (in), 36 BIPOLAR (in), 37 REF (io), 38 REFGND (in), 39 IN- (in), 40 VCC (power), 41 VEE (power), 42 AGND (power), 43 IN+ (in), 44 AVDD (power), 45 TEMP (out), 46 REFBUFIN (in), 47 PDREF (in), 48 PDBUF (in)

## AD7680xRM
designator IC?
3mW, 100kSPS, 16-Bit ADC
pins: 1 VDD (power), 2 GND (power), 3 GND (power), 4 VIN (in), 5 SCLK (in), 6 NC, 7 SDATA (out), 8 ~{CS} (in)

## AD7682BCPZ
designator IC?
16-Bit, 4-Channel, 250 kSPS PulSAR ADC
pins: 1 VDD (power), 2 REF (io), 3 REFIN (io), 4 GND (power), 5 GND (power), 6 NC, 7 IN2 (in), 8 NC, 9 IN3 (in), 10 COM (in), 11 CNV (in), 12 DIN (in), 13 SCK (in), 14 SDO (out), 15 VIO (power), 16 IN0 (in), 17 NC, 18 IN1 (in), 19 NC, 20 VDD (power), 21 EP (power)

## AD7683
designator IC?
16-Bit, 100 kSPS, Single-Ended,  PulSAR Analog-To-Digital Converter
pins: 1 REF (in), 2 +IN (in), 3 -IN (in), 4 GND (power), 5 ~{CS} (in), 6 DOUT (out), 7 DCLOCK (in), 8 VDD (power)

## AD7684
designator IC?
16-Bit, 100 kSPS PulSAR®, Differential ADC in MSOP
pins: 1 REF (in), 2 +IN (in), 3 -IN (in), 4 GND (power), 5 ~{CS} (in), 6 DOUT (out), 7 DCLOK (in), 8 VDD (power)

## AD7688BRMZ
designator IC?
16-Bit, 1.5 LSB INL, 500 kSPS PulSAR Differential ADC
pins: 1 REF (in), 2 VDD (power), 3 IN+ (in), 4 IN- (in), 5 GND (power), 6 CNV (in), 7 SDO (out), 8 SCK (in), 9 SDI (in), 10 VIO (power)

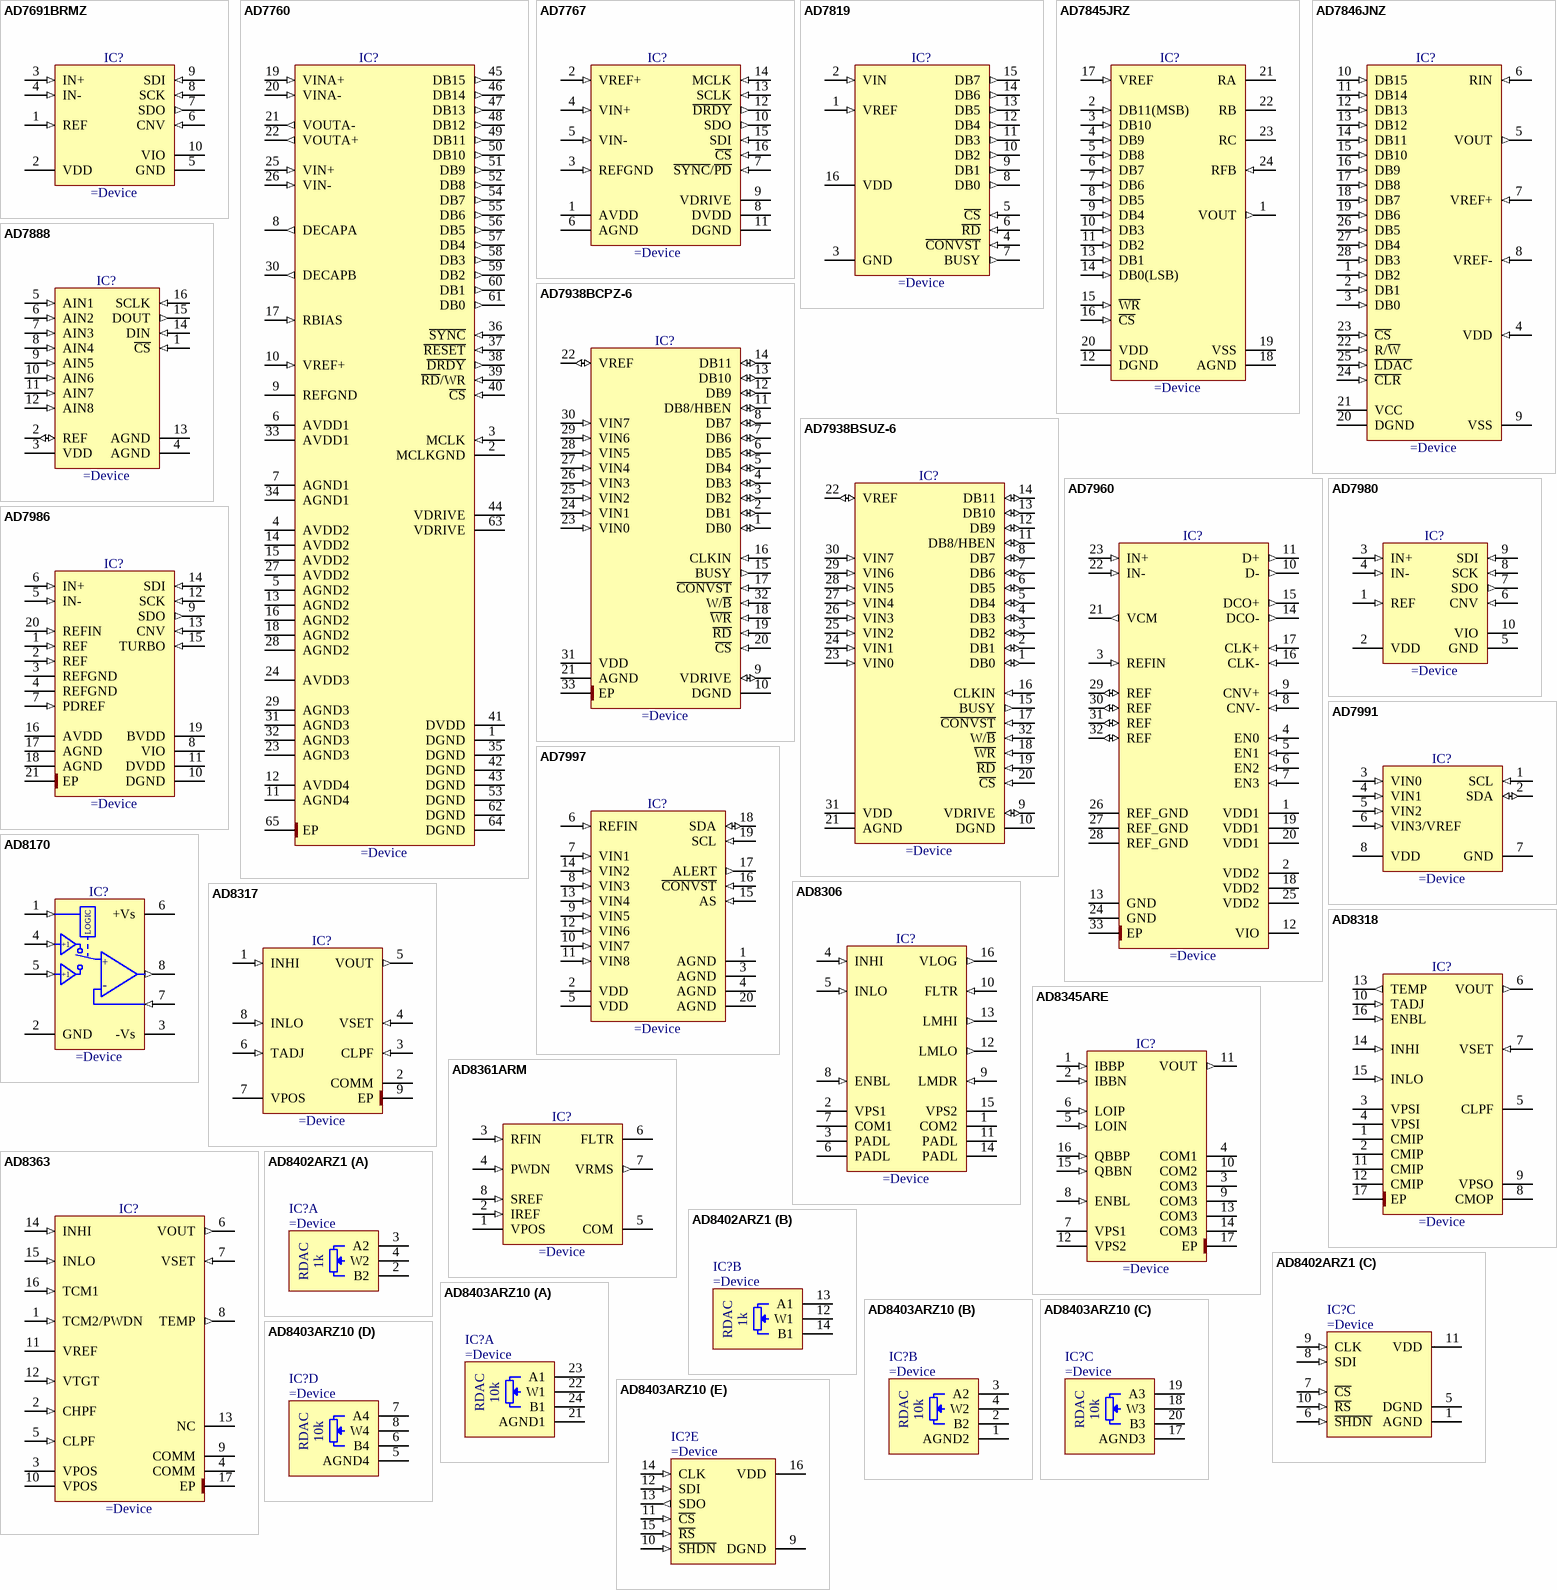
[diagram p7: symbols AD7691BRMZ to AD8403ARZ10]

## AD7691BRMZ
designator IC?
18-Bit, 1.5 LSB INL, 250 kSPS PulSAR Differential ADC
pins: 1 REF (in), 2 VDD (power), 3 IN+ (in), 4 IN- (in), 5 GND (power), 6 CNV (in), 7 SDO (out), 8 SCK (in), 9 SDI (in), 10 VIO (power)

## AD7760
designator IC?
2.5MSPS, 24-Bit, 100dB Sigma-Delta ADC With On-Chip Buffer
pins: 1 DGND (power), 2 MCLKGND (power), 3 MCLK (in), 4 AVDD2 (power), 5 AGND2 (power), 6 AVDD1 (power), 7 AGND1 (power), 8 DECAPA (out), 9 REFGND (power), 10 VREF+ (in), 11 AGND4 (power), 12 AVDD4 (power), 13 AGND2 (power), 14 AVDD2 (power), 15 AVDD2 (power), 16 AGND2 (power), 17 RBIAS (in), 18 AGND2 (power), 19 VINA+ (in), 20 VINA- (in), 21 VOUTA- (out), 22 VOUTA+ (out), 23 AGND3 (power), 24 AVDD3 (power), 25 VIN+ (in), 26 VIN- (in), 27 AVDD2 (power), 28 AGND2 (power), 29 AGND3 (power), 30 DECAPB (out), 31 AGND3 (power), 32 AGND3 (power), 33 AVDD1 (power), 34 AGND1 (power), 35 DGND (power), 36 ~{SYNC} (in), 37 ~{RESET} (in), 38 ~{DRDY} (out), 39 ~{RD}/WR (in), 40 ~{CS} (in), 41 DVDD (power), 42 DGND (power), 43 DGND (power), 44 VDRIVE (power), 45 DB15 (out), 46 DB14 (out), 47 DB13 (out), 48 DB12 (out), 49 DB11 (out), 50 DB10 (out), 51 DB9 (out), 52 DB8 (out), 53 DGND (power), 54 DB7 (out), 55 DB6 (out), 56 DB5 (out), 57 DB4 (out), 58 DB3 (out), 59 DB2 (out), 60 DB1 (out), 61 DB0 (out), 62 DGND (power), 63 VDRIVE (power), 64 DGND (power), 65 EP (power)

## AD7767
designator IC?
24-Bit, 8.5 mW, 109 dB, 128 kSPS ADC
pins: 1 AVDD (power), 2 VREF+ (in), 3 REFGND (in), 4 VIN+ (in), 5 VIN- (in), 6 AGND (power), 7 ~{SYNC}/~{PD} (in), 8 DVDD (power), 9 VDRIVE (power), 10 SDO (out), 11 DGND (power), 12 ~{DRDY} (out), 13 SCLK (in), 14 MCLK (in), 15 SDI (in), 16 ~{CS} (in)

## AD7819
designator IC?
2.7 V to 5.5 V, 200 kSPS 8-Bit Sampling ADC
pins: 1 VREF (in), 2 VIN (in), 3 GND (power), 4 ~{CONVST} (in), 5 ~{CS} (in), 6 ~{RD} (in), 7 BUSY (out), 8 DB0 (out), 9 DB1 (out), 10 DB2 (out), 11 DB3 (out), 12 DB4 (out), 13 DB5 (out), 14 DB6 (out), 15 DB7 (out), 16 VDD (power)

## AD7845JRZ
designator IC?
LC2MOS Complete 12-Bit Multiplying DAC
pins: 1 VOUT (out), 2 DB11(MSB) (in), 3 DB10 (in), 4 DB9 (in), 5 DB8 (in), 6 DB7 (in), 7 DB6 (in), 8 DB5 (in), 9 DB4 (in), 10 DB3 (in), 11 DB2 (in), 12 DGND (power), 13 DB1 (in), 14 DB0(LSB) (in), 15 ~{WR} (in), 16 ~{CS} (in), 17 VREF (in), 18 AGND (power), 19 VSS (power), 20 VDD (power), 21 RA, 22 RB, 23 RC, 24 RFB (in)

## AD7846JNZ
designator IC?
16-Bit Voltage Output DAC
pins: 1 DB2 (in), 2 DB1 (in), 3 DB0 (in), 4 VDD (in), 5 VOUT (out), 6 RIN (in), 7 VREF+ (in), 8 VREF- (in), 9 VSS (power), 10 DB15 (in), 11 DB14 (in), 12 DB13 (in), 13 DB12 (in), 14 DB11 (in), 15 DB10 (in), 16 DB9 (in), 17 DB8 (in), 18 DB7 (in), 19 DB6 (in), 20 DGND (power), 21 VCC (power), 22 R/~{W} (in), 23 ~{CS} (in), 24 ~{CLR} (in), 25 ~{LDAC} (in), 26 DB5 (in), 27 DB4 (in), 28 DB3 (in)

## AD7888
designator IC?
2.7 V to 5.25 V, Micro Power, 8-Channel, 125 kSPS, 12-Bit ADC
pins: 1 ~{CS} (in), 2 REF (io), 3 VDD (power), 4 AGND (power), 5 AIN1 (in), 6 AIN2 (in), 7 AIN3 (in), 8 AIN4 (in), 9 AIN5 (in), 10 AIN6 (in), 11 AIN7 (in), 12 AIN8 (in), 13 AGND (power), 14 DIN (in), 15 DOUT (out), 16 SCLK (in)

## AD7938BCPZ-6
designator IC?
8-Channel, 625 kSPS, 12-Bit Parallel ADCs with a Sequencer
pins: 1 DB0 (io), 2 DB1 (io), 3 DB2 (io), 4 DB3 (io), 5 DB4 (io), 6 DB5 (io), 7 DB6 (io), 8 DB7 (io), 9 VDRIVE (io), 10 DGND (power), 11 DB8/HBEN (io), 12 DB9 (io), 13 DB10 (io), 14 DB11 (io), 15 BUSY (out), 16 CLKIN (in), 17 ~{CONVST} (in), 18 ~{WR} (in), 19 ~{RD} (in), 20 ~{CS} (in), 21 AGND (power), 22 VREF (io), 23 VIN0 (in), 24 VIN1 (in), 25 VIN2 (in), 26 VIN3 (in), 27 VIN4 (in), 28 VIN5 (in), 29 VIN6 (in), 30 VIN7 (in), 31 VDD (power), 32 W/~{B} (in), 33 EP (power)

## AD7938BSUZ-6
designator IC?
8-Channel, 625 kSPS, 12-Bit Parallel ADCs with a Sequencer
pins: 1 DB0 (io), 2 DB1 (io), 3 DB2 (io), 4 DB3 (io), 5 DB4 (io), 6 DB5 (io), 7 DB6 (io), 8 DB7 (io), 9 VDRIVE (io), 10 DGND (power), 11 DB8/HBEN (io), 12 DB9 (io), 13 DB10 (io), 14 DB11 (io), 15 BUSY (out), 16 CLKIN (in), 17 ~{CONVST} (in), 18 ~{WR} (in), 19 ~{RD} (in), 20 ~{CS} (in), 21 AGND (power), 22 VREF (io), 23 VIN0 (in), 24 VIN1 (in), 25 VIN2 (in), 26 VIN3 (in), 27 VIN4 (in), 28 VIN5 (in), 29 VIN6 (in), 30 VIN7 (in), 31 VDD (power), 32 W/~{B} (in)

## AD7960
designator IC?
18-Bit, 5 MSPS, PulSAR Differential ADC
pins: 1 VDD1 (power), 2 VDD2 (power), 3 REFIN (in), 4 EN0 (in), 5 EN1 (in), 6 EN2 (in), 7 EN3 (in), 8 CNV- (in), 9 CNV+ (in), 10 D- (out), 11 D+ (out), 12 VIO (power), 13 GND (power), 14 DCO- (out), 15 DCO+ (out), 16 CLK- (in), 17 CLK+ (in), 18 VDD2 (power), 19 VDD1 (power), 20 VDD1 (power), 21 VCM (out), 22 IN- (in), 23 IN+ (in), 24 GND (power), 25 VDD2 (power), 26 REF_GND (power), 27 REF_GND (power), 28 REF_GND (power), 29 REF (io), 30 REF (io), 31 REF (io), 32 REF (io), 33 EP (power)

## AD7980
designator IC?
16-Bit, 1 MSPS PulSAR ADC
pins: 1 REF (in), 2 VDD (power), 3 IN+ (in), 4 IN- (in), 5 GND (power), 6 CNV (in), 7 SDO (out), 8 SCK (in), 9 SDI (in), 10 VIO (power)

## AD7986
designator IC?
18-Bit, 2MSPS PulSAR 15mW ADC
pins: 1 REF (in), 2 REF (in), 3 REFGND (power), 4 REFGND (power), 5 IN- (in), 6 IN+ (in), 7 PDREF (in), 8 VIO (power), 9 SDO (out), 10 DGND (power), 11 DVDD (power), 12 SCK (in), 13 CNV (in), 14 SDI (in), 15 TURBO (in), 16 AVDD (power), 17 AGND (power), 18 AGND (power), 19 BVDD (power), 20 REFIN (in), 21 EP (power)

## AD7991
designator IC?
4-Channel, 12-Bit ADC with I2C-Compatible Interface
pins: 1 SCL (in), 2 SDA (io), 3 VIN0 (in), 4 VIN1 (in), 5 VIN2 (in), 6 VIN3/VREF (in), 7 GND (power), 8 VDD (power)

## AD7997
designator IC?
8-Channel, 10-Bit ADCs with I2C-Compatible Interface
pins: 1 AGND (power), 2 VDD (power), 3 AGND (power), 4 AGND (power), 5 VDD (power), 6 REFIN (in), 7 VIN1 (in), 8 VIN3 (in), 9 VIN5 (in), 10 VIN7 (in), 11 VIN8 (in), 12 VIN6 (in), 13 VIN4 (in), 14 VIN2 (in), 15 AS (in), 16 ~{CONVST} (in), 17 ALERT (out), 18 SDA (io), 19 SCL (in), 20 AGND (power)

## AD8170
designator IC?
250 MHz, 10 ns Switching Multiplexers With Amplifier
pins: 1 SEL (in), 2 GND (power), 3 -Vs (power), 4 IN0 (in), 5 IN1 (in), 6 +Vs (power), 7 -VIN (in), 8 VOUT (out)
text: LOGIC; +1; +; -

## AD8306
designator IC?
5MHz–400MHz 100dB High Precision Limiting-Logarithmic Amplifier
pins: 1 COM2 (power), 2 VPS1 (power), 3 PADL (power), 4 INHI (in), 5 INLO (in), 6 PADL (power), 7 COM1 (power), 8 ENBL (in), 9 LMDR (in), 10 FLTR (in), 11 PADL (power), 12 LMLO (out), 13 LMHI (out), 14 PADL (power), 15 VPS2 (power), 16 VLOG (out)

## AD8317
designator IC?
1MHz to 10GHz, 55 dB Logarithmic Detector/Controller
pins: 1 INHI (in), 2 COMM (power), 3 CLPF (in), 4 VSET (in), 5 VOUT (out), 6 TADJ (in), 7 VPOS (power), 8 INLO (in), 9 EP (power)

## AD8318
designator IC?
1MHz to 8GHz, 70 dB Logarithmic Detector/Controller
pins: 1 CMIP (power), 2 CMIP (power), 3 VPSI (power), 4 VPSI (power), 5 CLPF, 6 VOUT (out), 7 VSET (in), 8 CMOP (power), 9 VPSO (power), 10 TADJ (in), 11 CMIP (power), 12 CMIP (power), 13 TEMP (out), 14 INHI (in), 15 INLO (in), 16 ENBL (in), 17 EP (power)

## AD8345ARE
designator IC?
140MHz to 1000MHz Quadrature Modulator
pins: 1 IBBP (in) "I Channel Baseband Differential Input Pins. These high impedance inputs should be dc-biased to approximately 0.7 V. Nominal characterized ac swing is 0.6 V p-p on each pin (0.4 V to 1 V). [see datasheet]", 2 IBBN (in) "I Channel Baseband Differential Input Pins. These high impedance inputs should be dc-biased to approximately 0.7 V. Nominal characterized ac swing is 0.6 V p-p on each pin (0.4 V to 1 V). [see datasheet]", 3 COM3 (power) "Ground Pin for Input V-to-I Converters and Mixer Core.", 4 COM1 (power) "Ground Pin for the LO Phase Splitter and LO Buffers.", 5 LOIN (in) "Differential LO Drive Pins. Internal dc bias (approximately 1.8 V @ VS = 5 V) is supplied. Pins must be ac-coupled. Single-ended or differential drive is permissible.", 6 LOIP (in) "Differential LO Drive Pins. Internal dc bias (approximately 1.8 V @ VS = 5 V) is supplied. Pins must be ac-coupled. Single-ended or differential drive is permissible.", 7 VPS1 (power) "Power Supply Pin for the Bias Cell and LO Buffers. This pin should be decoupled using local 1000 pF and 0.01 uF capacitors.", 8 ENBL (in) "Enable Pin. A high level enables the device; a low level puts the device in sleep mode.", 9 COM3 (power) "Ground Pin for Input V-to-I Converters and Mixer Core.", 10 COM2 (power) "Ground Pin for the Output Stage of Output Amplifier.", 11 VOUT (out) "50  ohm DC-Coupled RF Output. Pin should be ac-coupled.", 12 VPS2 (power) "Power Supply Pin for Baseband Input Voltage to Current Converters and Mixer Core. This pin should be decoupled using local 1000 pF and 0.01 uF capacitors.", 13 COM3 (power) "Ground Pin for Input V-to-I Converters and Mixer Core.", 14 COM3 (power) "Ground Pin for Input V-to-I Converters and Mixer Core.", 15 QBBN (in) "Q Channel Baseband Differential Input Pins. Inputs should be dc-biased to approxi-mately 0.7 V. Nominal characterized ac swing is 0.6 V p-p on each pin (0.4 V to 1 V). This gives a differential drive level of 1.2 V p-p. Inputs are not self-biasing, so ext", 16 QBBP (in) "Q Channel Baseband Differential Input Pins. Inputs should be dc-biased to approxi-mately 0.7 V. Nominal characterized ac swing is 0.6 V p-p on each pin (0.4 V to 1 V). This gives a differential drive level of 1.2 V p-p. Inputs are not self-biasing, so ext", 17 EP (power) "Connect to ground plane via a low impedance path."

## AD8361ARM
designator IC?
LF to 2.5 GHz TruPwr Detector
pins: 1 VPOS (power), 2 IREF (in), 3 RFIN (in), 4 PWDN (in), 5 COM (power), 6 FLTR, 7 VRMS (out), 8 SREF (in)

## AD8363
designator IC?
50Hz to 6GHz, 50 dB TruPwr Detector
pins: 1 TCM2/PWDN (in), 2 CHPF (in), 3 VPOS (power), 4 COMM (power), 5 CLPF (in), 6 VOUT (out), 7 VSET (in), 8 TEMP (out), 9 COMM (power), 10 VPOS (power), 11 VREF (power), 12 VTGT (in), 13 NC, 14 INHI (in), 15 INLO (in), 16 TCM1 (in), 17 EP (power)

## AD8402ARZ1
designator IC?
2-Channel 1k Digital Potentiometer
part A pins: 2 B2, 3 A2, 4 W2
part B pins: 12 W1, 13 A1, 14 B1
part C pins: 1 AGND (power), 5 DGND (power), 6 ~{SHDN} (in), 7 ~{CS} (in), 8 SDI (in), 9 CLK (in), 10 ~{RS} (in), 11 VDD (power)
part A text: RDAC; 1k
part B text: RDAC; 1k

## AD8403ARZ10
designator IC?
4-Channel 10k Digital Potentiometer
part A pins: 21 AGND1, 22 W1 (power), 23 A1, 24 B1
part B pins: 1 AGND2 (power), 2 B2, 3 A2, 4 W2
part C pins: 17 AGND3 (power), 18 W3, 19 A3, 20 B3
part D pins: 5 AGND4 (power), 6 B4, 7 A4, 8 W4
part E pins: 9 DGND (power), 10 ~{SHDN} (in), 11 ~{CS} (in), 12 SDI (in), 13 SDO (out), 14 CLK (in), 15 ~{RS} (in), 16 VDD (power)
part A text: RDAC; 10k
part B text: RDAC; 10k
part C text: RDAC; 10k
part D text: RDAC; 10k

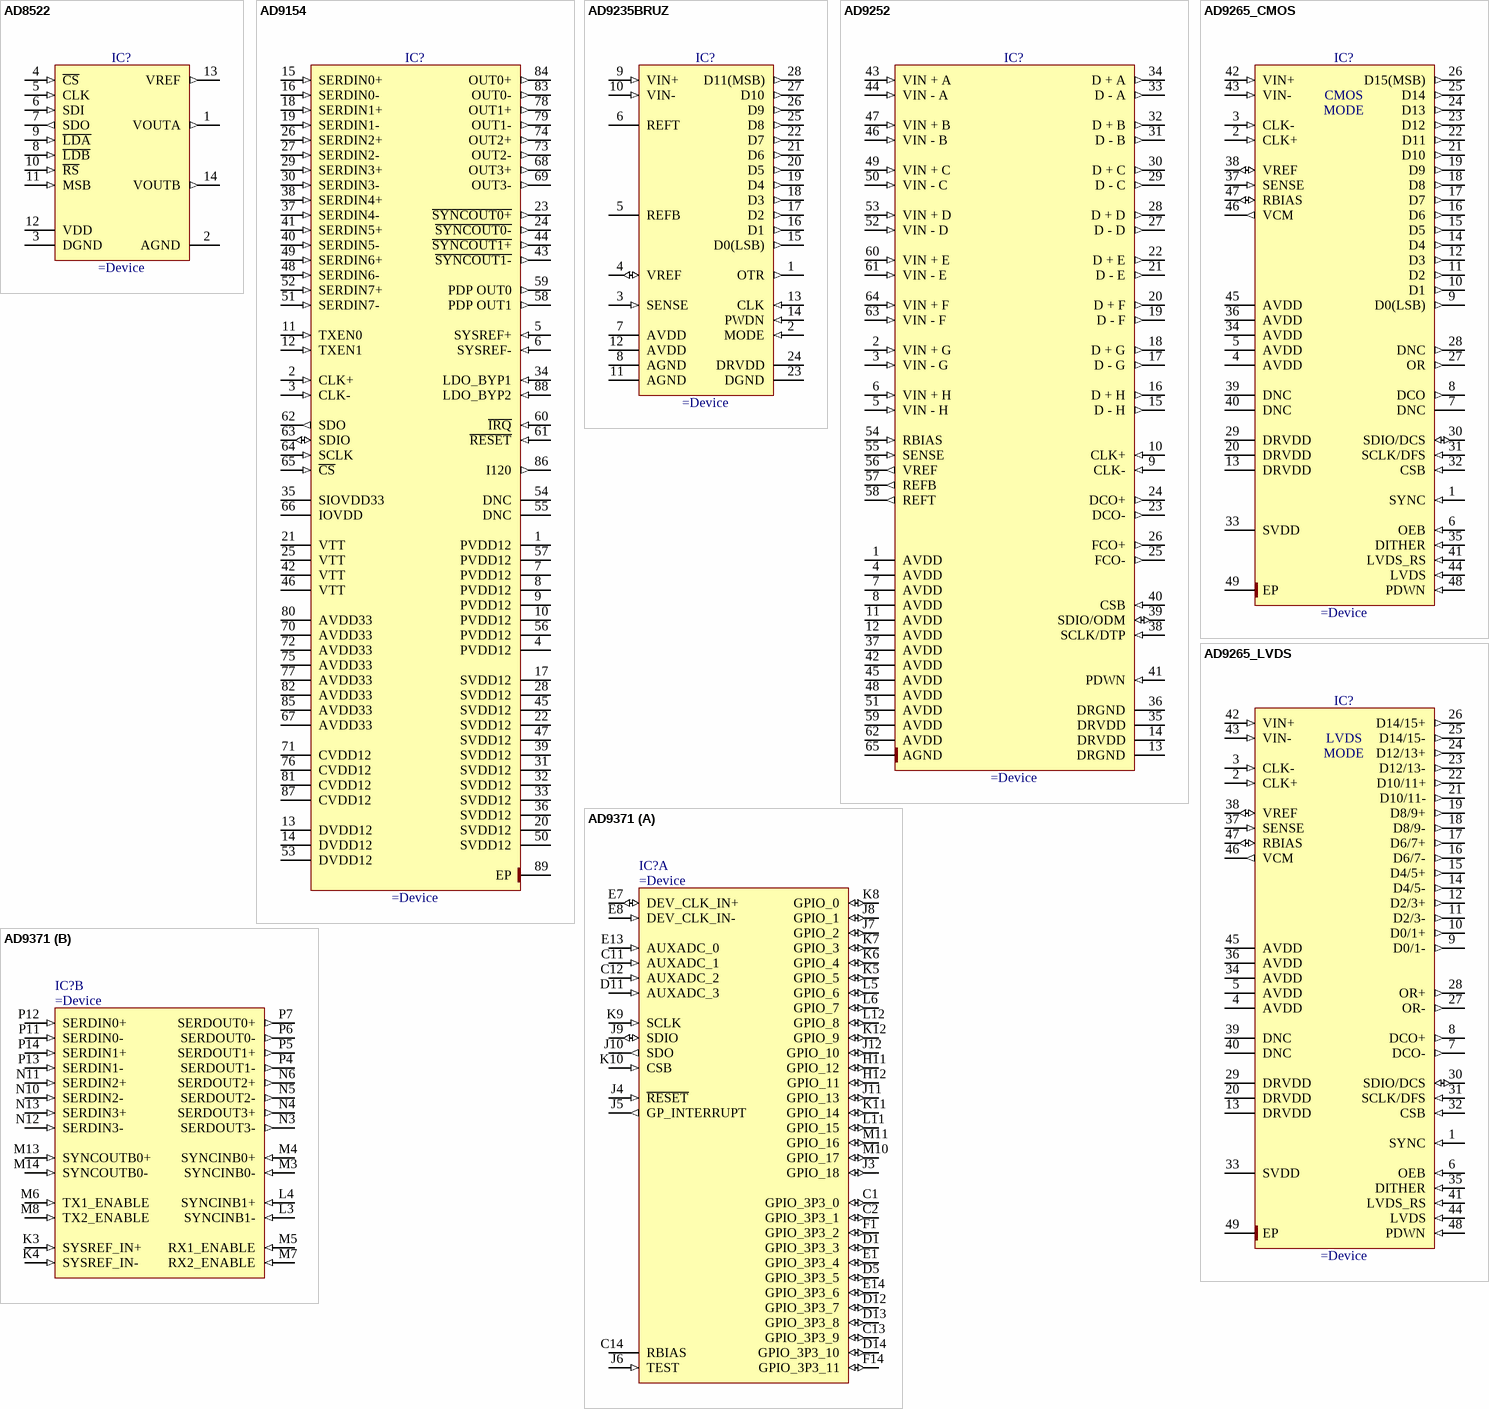
[diagram p8: symbols AD8522 to AD9371]

## AD8522
designator IC?
+5 Volt, Serial Input, Dual 12-Bit DAC
pins: 1 VOUTA (out), 2 AGND (power), 3 DGND (power), 4 ~{CS} (in), 5 CLK (in), 6 SDI (in), 7 SDO (out), 8 ~{LDB} (in), 9 ~{LDA} (in), 10 ~{RS} (in), 11 MSB (in), 12 VDD (power), 13 VREF (out), 14 VOUTB (out)

## AD9154
designator IC?
Quad, 16-Bit, 2.4 GSPS, TxDAC+® Digital-to-Analog Converter
pins: 1 PVDD12 (power), 2 CLK+ (in), 3 CLK- (in), 4 PVDD12 (power), 5 SYSREF+ (in), 6 SYSREF- (in), 7 PVDD12 (power), 8 PVDD12 (power), 9 PVDD12 (power), 10 PVDD12 (power), 11 TXEN0 (in), 12 TXEN1 (in), 13 DVDD12 (power), 14 DVDD12 (power), 15 SERDIN0+ (in), 16 SERDIN0- (in), 17 SVDD12 (power), 18 SERDIN1+ (in), 19 SERDIN1- (in), 20 SVDD12 (power), 21 VTT (power), 22 SVDD12 (power), 23 ~{SYNCOUT0+} (out), 24 ~{SYNCOUT0-} (out), 25 VTT (power), 26 SERDIN2+ (in), 27 SERDIN2- (in), 28 SVDD12 (power), 29 SERDIN3+ (in), 30 SERDIN3- (in), 31 SVDD12 (power), 32 SVDD12 (power), 33 SVDD12 (power), 34 LDO_BYP1 (in), 35 SIOVDD33 (power), 36 SVDD12 (power), 37 SERDIN4- (in), 38 SERDIN4+ (in), 39 SVDD12 (power), 40 SERDIN5- (in), 41 SERDIN5+ (in), 42 VTT (power), 43 ~{SYNCOUT1-} (out), 44 ~{SYNCOUT1+} (out), 45 SVDD12 (power), 46 VTT (power), 47 SVDD12 (power), 48 SERDIN6- (in), 49 SERDIN6+ (in), 50 SVDD12 (power), 51 SERDIN7- (in), 52 SERDIN7+ (in), 53 DVDD12 (power), 54 DNC, 55 DNC, 56 PVDD12 (power), 57 PVDD12 (power), 58 PDP OUT1 (out), 59 PDP OUT0 (out), 60 ~{IRQ} (in), 61 ~{RESET} (in), 62 SDO (out), 63 SDIO (io), 64 SCLK (in), 65 ~{CS} (in), 66 IOVDD (power), 67 AVDD33 (power), 68 OUT3+ (out), 69 OUT3- (out), 70 AVDD33 (power), 71 CVDD12 (power), 72 AVDD33 (power), 73 OUT2- (out), 74 OUT2+ (out), 75 AVDD33 (power), 76 CVDD12 (power), 77 AVDD33 (power), 78 OUT1+ (out), 79 OUT1- (out), 80 AVDD33 (power), 81 CVDD12 (power), 82 AVDD33 (power), 83 OUT0- (out), 84 OUT0+ (out), 85 AVDD33 (power), 86 I120 (out), 87 CVDD12 (power), 88 LDO_BYP2 (in), 89 EP (power)

## AD9235BRUZ
designator IC?
12-Bit, 20/40/65 MSPS 3 V ADC
pins: 1 OTR (out), 2 MODE (in), 3 SENSE (in), 4 VREF (io), 5 REFB, 6 REFT, 7 AVDD (power), 8 AGND (power), 9 VIN+ (in), 10 VIN- (in), 11 AGND (power), 12 AVDD (power), 13 CLK (in), 14 PWDN (in), 15 D0(LSB) (out), 16 D1 (out), 17 D2 (out), 18 D3 (out), 19 D4 (out), 20 D5 (out), 21 D6 (out), 22 D7 (out), 23 DGND (power), 24 DRVDD (power), 25 D8 (out), 26 D9 (out), 27 D10 (out), 28 D11(MSB) (out)

## AD9252
designator IC?
Octal, 14-Bit, 50 MSPS, Serial LVDS, 1.8 V Analog-to-Digital Converter
pins: 1 AVDD (power), 2 VIN + G (in), 3 VIN - G (in), 4 AVDD (power), 5 VIN - H (in), 6 VIN + H (in), 7 AVDD (power), 8 AVDD (power), 9 CLK- (in), 10 CLK+ (in), 11 AVDD (power), 12 AVDD (power), 13 DRGND (power), 14 DRVDD (power), 15 D - H (out), 16 D + H (out), 17 D - G (out), 18 D + G (out), 19 D - F (out), 20 D + F (out), 21 D - E (out), 22 D + E (out), 23 DCO- (out), 24 DCO+ (out), 25 FCO- (out), 26 FCO+ (out), 27 D - D (out), 28 D + D (out), 29 D - C (out), 30 D + C (out), 31 D - B (out), 32 D + B (out), 33 D - A (out), 34 D + A (out), 35 DRVDD (power), 36 DRGND (power), 37 AVDD (power), 38 SCLK/DTP (in), 39 SDIO/ODM (io), 40 CSB (in), 41 PDWN (in), 42 AVDD (power), 43 VIN + A (in), 44 VIN - A (in), 45 AVDD (power), 46 VIN - B (in), 47 VIN + B (in), 48 AVDD (power), 49 VIN + C (in), 50 VIN - C (in), 51 AVDD (power), 52 VIN - D (in), 53 VIN + D (in), 54 RBIAS (in), 55 SENSE (in), 56 VREF (out), 57 REFB (out), 58 REFT (out), 59 AVDD (power), 60 VIN + E (in), 61 VIN - E (in), 62 AVDD (power), 63 VIN - F (in), 64 VIN + F (in), 65 AGND (power)

## AD9265_CMOS
designator IC?
16-Bit, 125 MSPS, 1.8 V Analog-to-Digital Converter (CMOS Mode)
pins: 1 SYNC (in), 2 CLK+ (in), 3 CLK- (in), 4 AVDD (power), 5 AVDD (power), 6 OEB (in), 7 DNC, 8 DCO (out), 9 D0(LSB) (out), 10 D1 (out), 11 D2 (out), 12 D3 (out), 13 DRVDD (power), 14 D4 (out), 15 D5 (out), 16 D6 (out), 17 D7 (out), 18 D8 (out), 19 D9 (out), 20 DRVDD (power), 21 D10 (out), 22 D11 (out), 23 D12 (out), 24 D13 (out), 25 D14 (out), 26 D15(MSB) (out), 27 OR (out), 28 DNC (out), 29 DRVDD (power), 30 SDIO/DCS (io), 31 SCLK/DFS (in), 32 CSB (in), 33 SVDD (power), 34 AVDD (power), 35 DITHER (in), 36 AVDD (power), 37 SENSE (in), 38 VREF (io), 39 DNC, 40 DNC, 41 LVDS_RS (in), 42 VIN+ (in), 43 VIN- (in), 44 LVDS (in), 45 AVDD (power), 46 VCM (out), 47 RBIAS (io), 48 PDWN (in), 49 EP (power)
text: CMOS; MODE

## AD9265_LVDS
designator IC?
16-Bit, 125 MSPS, 1.8 V Analog-to-Digital Converter (LVDS Mode)
pins: 1 SYNC (in), 2 CLK+ (in), 3 CLK- (in), 4 AVDD (power), 5 AVDD (power), 6 OEB (in), 7 DCO- (out), 8 DCO+ (out), 9 D0/1- (out), 10 D0/1+ (out), 11 D2/3- (out), 12 D2/3+ (out), 13 DRVDD (power), 14 D4/5- (out), 15 D4/5+ (out), 16 D6/7- (out), 17 D6/7+ (out), 18 D8/9- (out), 19 D8/9+ (out), 20 DRVDD (power), 21 D10/11- (out), 22 D10/11+ (out), 23 D12/13- (out), 24 D12/13+ (out), 25 D14/15- (out), 26 D14/15+ (out), 27 OR- (out), 28 OR+ (out), 29 DRVDD (power), 30 SDIO/DCS (io), 31 SCLK/DFS (in), 32 CSB (in), 33 SVDD (power), 34 AVDD (power), 35 DITHER (in), 36 AVDD (power), 37 SENSE (in), 38 VREF (io), 39 DNC, 40 DNC, 41 LVDS_RS (in), 42 VIN+ (in), 43 VIN- (in), 44 LVDS (in), 45 AVDD (power), 46 VCM (out), 47 RBIAS (io), 48 PDWN (in), 49 EP (power)
text: MODE

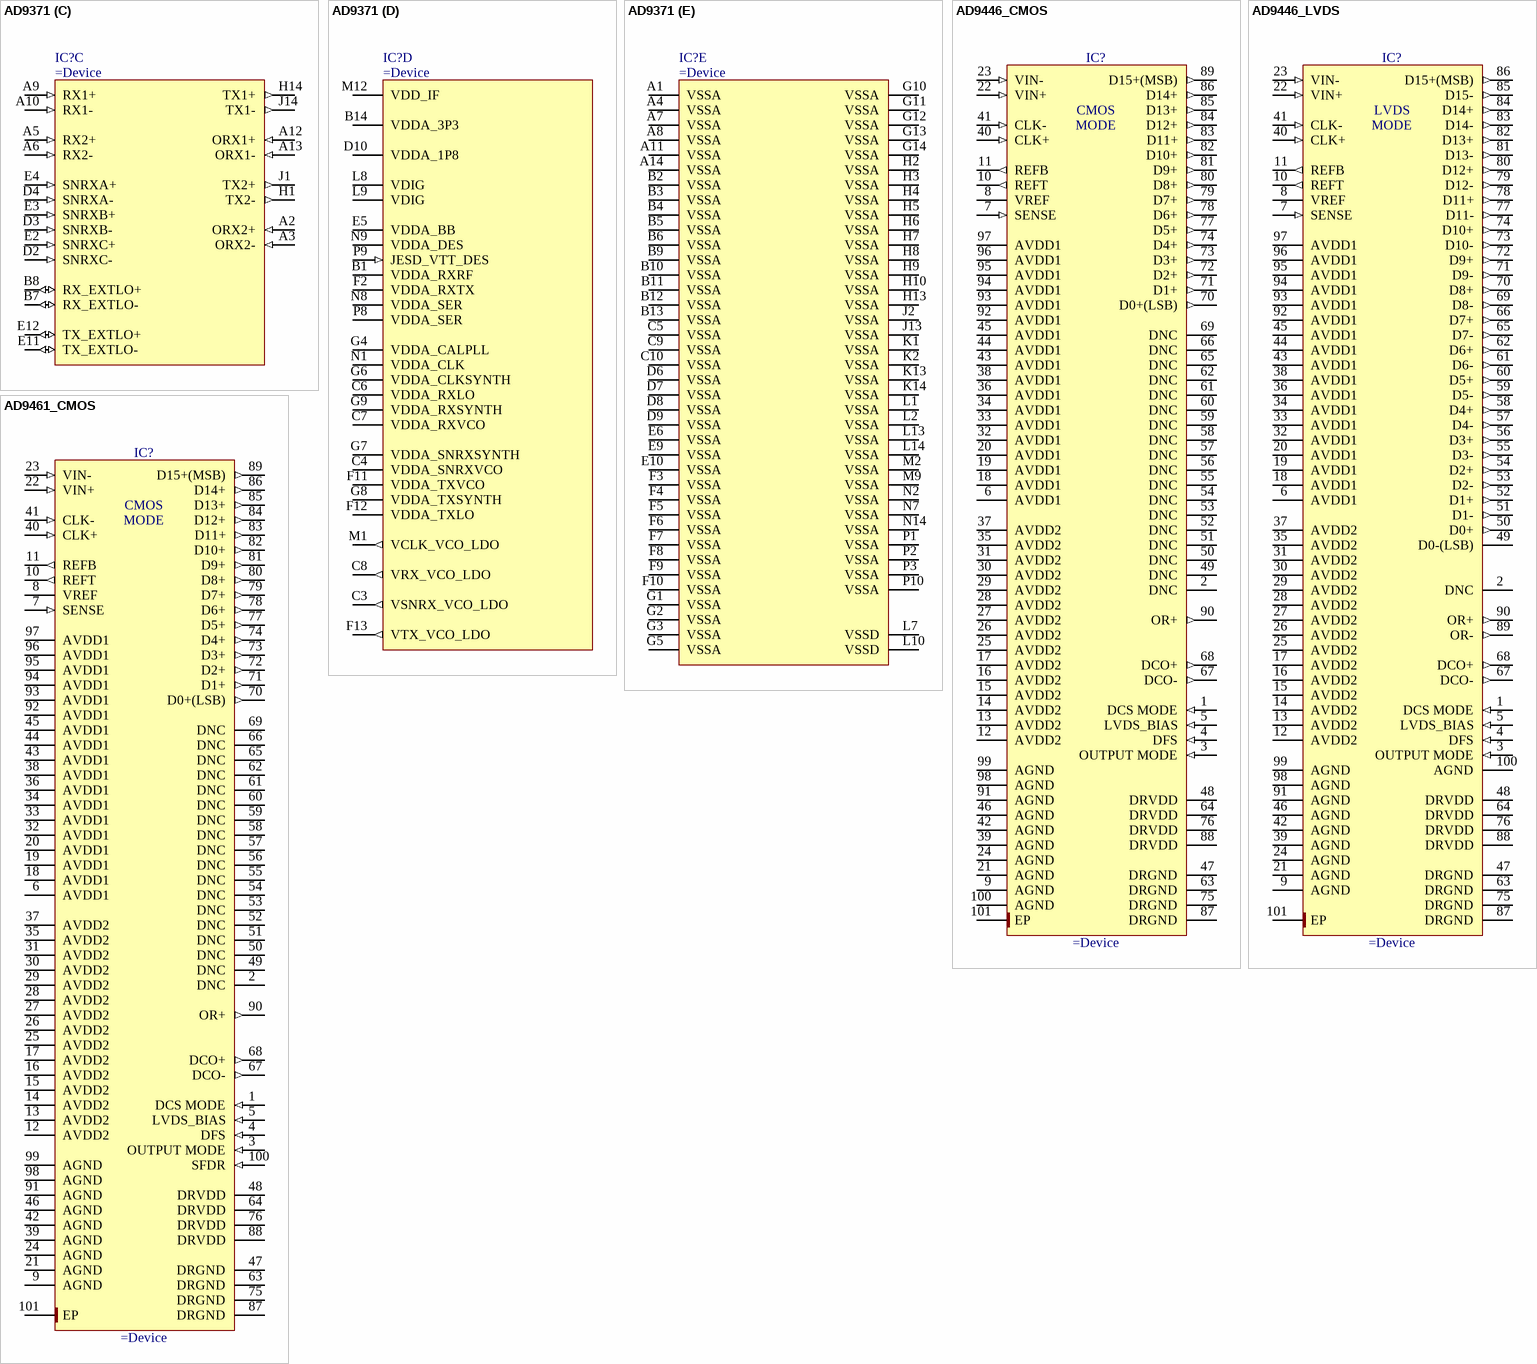
[diagram p9: symbols AD9371 to AD9461_CMOS]

## AD9371
designator IC?
Integrated, Dual RF Transceiver with Observation Path
part A pins: C1 GPIO_3P3_0 (io), C2 GPIO_3P3_1 (io), C11 AUXADC_1 (in), C12 AUXADC_2 (in), C13 GPIO_3P3_9 (io), C14 RBIAS, D1 GPIO_3P3_3 (io), D5 GPIO_3P3_5 (io), D11 AUXADC_3 (in), D12 GPIO_3P3_7 (io), D13 GPIO_3P3_8 (io), D14 GPIO_3P3_10 (io), E1 GPIO_3P3_4 (io), E7 DEV_CLK_IN+ (io), E8 DEV_CLK_IN- (in), E13 AUXADC_0 (in), E14 GPIO_3P3_6 (io), F1 GPIO_3P3_2 (io), F14 GPIO_3P3_11 (io), H11 GPIO_12 (io), H12 GPIO_11 (io), J3 GPIO_18 (io), J4 ~{RESET} (in), J5 GP_INTERRUPT (out), J6 TEST (in), J7 GPIO_2 (io), J8 GPIO_1 (io), J9 SDIO (io), J10 SDO (out), J11 GPIO_13 (io), J12 GPIO_10 (io), K5 GPIO_5 (io), K6 GPIO_4 (io), K7 GPIO_3 (io), K8 GPIO_0 (io), K9 SCLK (in), K10 CSB (in), K11 GPIO_14 (io), K12 GPIO_9 (io), L5 GPIO_6 (io), L6 GPIO_7 (io), L11 GPIO_15 (io), L12 GPIO_8 (io), M10 GPIO_17 (io), M11 GPIO_16 (io)
part B pins: K3 SYSREF_IN+ (in), K4 SYSREF_IN- (in), L3 SYNCINB1- (in), L4 SYNCINB1+ (in), M3 SYNCINB0- (in), M4 SYNCINB0+ (in), M5 RX1_ENABLE (in), M6 TX1_ENABLE (in), M7 RX2_ENABLE (in), M8 TX2_ENABLE (in), M13 SYNCOUTB0+ (in), M14 SYNCOUTB0- (in), N3 SERDOUT3- (out), N4 SERDOUT3+ (out), N5 SERDOUT2- (out), N6 SERDOUT2+ (out), N10 SERDIN2- (in), N11 SERDIN2+ (in), N12 SERDIN3- (in), N13 SERDIN3+ (in), P4 SERDOUT1- (out), P5 SERDOUT1+ (out), P6 SERDOUT0- (out), P7 SERDOUT0+ (out), P11 SERDIN0- (in), P12 SERDIN0+ (in), P13 SERDIN1- (in), P14 SERDIN1+ (in)
part C pins: A2 ORX2+ (in), A3 ORX2- (in), A5 RX2+ (in), A6 RX2- (in), A9 RX1+ (in), A10 RX1- (in), A12 ORX1+ (in), A13 ORX1- (in), B7 RX_EXTLO- (io), B8 RX_EXTLO+ (io), D2 SNRXC- (in), D3 SNRXB- (in), D4 SNRXA- (in), E2 SNRXC+ (in), E3 SNRXB+ (in), E4 SNRXA+ (in), E11 TX_EXTLO- (io), E12 TX_EXTLO+ (io), H1 TX2- (out), H14 TX1+ (out), J1 TX2+ (out), J14 TX1- (out)
part D pins: B1 VDDA_RXRF (power), B14 VDDA_3P3 (power), C3 VSNRX_VCO_LDO (out), C4 VDDA_SNRXVCO (power), C6 VDDA_RXLO (power), C7 VDDA_RXVCO (power), C8 VRX_VCO_LDO (out), D10 VDDA_1P8 (power), E5 VDDA_BB (power), F2 VDDA_RXTX (power), F11 VDDA_TXVCO (power), F12 VDDA_TXLO (power), F13 VTX_VCO_LDO (out), G4 VDDA_CALPLL (power), G6 VDDA_CLKSYNTH (power), G7 VDDA_SNRXSYNTH (power), G8 VDDA_TXSYNTH (power), G9 VDDA_RXSYNTH (power), L8 VDIG (power), L9 VDIG (power), M1 VCLK_VCO_LDO (out), M12 VDD_IF (power), N1 VDDA_CLK (power), N8 VDDA_SER (power), N9 VDDA_DES (power), P8 VDDA_SER (power), P9 JESD_VTT_DES (in)
part E pins: A1 VSSA (power), A4 VSSA (power), A7 VSSA (power), A8 VSSA (power), A11 VSSA (power), A14 VSSA (power), B2 VSSA (power), B3 VSSA (power), B4 VSSA (power), B5 VSSA (power), B6 VSSA (power), B9 VSSA (power), B10 VSSA (power), B11 VSSA (power), B12 VSSA (power), B13 VSSA (power), C5 VSSA (power), C9 VSSA (power), C10 VSSA (power), D6 VSSA (power), D7 VSSA (power), D8 VSSA (power), D9 VSSA (power), E6 VSSA (power), E9 VSSA (power), E10 VSSA (power), F3 VSSA (power), F4 VSSA (power), F5 VSSA (power), F6 VSSA (power), F7 VSSA (power), F8 VSSA (power), F9 VSSA (power), F10 VSSA (power), G1 VSSA (power), G2 VSSA (power), G3 VSSA (power), G5 VSSA (power), G10 VSSA (power), G11 VSSA (power), G12 VSSA (power), G13 VSSA (power), G14 VSSA (power), H2 VSSA (power), H3 VSSA (power), H4 VSSA (power), H5 VSSA (power), H6 VSSA (power), H7 VSSA (power), H8 VSSA (power), H9 VSSA (power), H10 VSSA (power), H13 VSSA (power), J2 VSSA (power), J13 VSSA (power), K1 VSSA (power), K2 VSSA (power), K13 VSSA (power), K14 VSSA (power), L1 VSSA (power), L2 VSSA (power), L7 VSSD (power), L10 VSSD (power), L13 VSSA (power), L14 VSSA (power), M2 VSSA (power), M9 VSSA (power), N2 VSSA (power), N7 VSSA (power), N14 VSSA (power), P1 VSSA (power), P2 VSSA (power), P3 VSSA (power), P10 VSSA (power)

## AD9446_CMOS
designator IC?
16-Bit, 80/100 MSPS ADC (CMOS Mode)
pins: 1 DCS MODE (in), 2 DNC, 3 OUTPUT MODE (in), 4 DFS (in), 5 LVDS_BIAS (in), 6 AVDD1 (power), 7 SENSE (in), 8 VREF, 9 AGND (power), 10 REFT (out), 11 REFB (out), 12 AVDD2 (power), 13 AVDD2 (power), 14 AVDD2 (power), 15 AVDD2 (power), 16 AVDD2 (power), 17 AVDD2 (power), 18 AVDD1 (power), 19 AVDD1 (power), 20 AVDD1 (power), 21 AGND (power), 22 VIN+ (in), 23 VIN- (in), 24 AGND (power), 25 AVDD2 (power), 26 AVDD2 (power), 27 AVDD2 (power), 28 AVDD2 (power), 29 AVDD2 (power), 30 AVDD2 (power), 31 AVDD2 (power), 32 AVDD1 (power), 33 AVDD1 (power), 34 AVDD1 (power), 35 AVDD2 (power), 36 AVDD1 (power), 37 AVDD2 (power), 38 AVDD1 (power), 39 AGND (power), 40 CLK+ (in), 41 CLK- (in), 42 AGND (power), 43 AVDD1 (power), 44 AVDD1 (power), 45 AVDD1 (power), 46 AGND (power), 47 DRGND (power), 48 DRVDD (power), 49 DNC, 50 DNC, 51 DNC, 52 DNC, 53 DNC, 54 DNC, 55 DNC, 56 DNC, 57 DNC, 58 DNC, 59 DNC, 60 DNC, 61 DNC, 62 DNC, 63 DRGND (power), 64 DRVDD (power), 65 DNC, 66 DNC, 67 DCO- (out), 68 DCO+ (out), 69 DNC, 70 D0+(LSB) (out), 71 D1+ (out), 72 D2+ (out), 73 D3+ (out), 74 D4+ (out), 75 DRGND (power), 76 DRVDD (power), 77 D5+ (out), 78 D6+ (out), 79 D7+ (out), 80 D8+ (out), 81 D9+ (out), 82 D10+ (out), 83 D11+ (out), 84 D12+ (out), 85 D13+ (out), 86 D14+ (out), 87 DRGND (power), 88 DRVDD (power), 89 D15+(MSB) (out), 90 OR+ (out), 91 AGND (power), 92 AVDD1 (power), 93 AVDD1 (power), 94 AVDD1 (power), 95 AVDD1 (power), 96 AVDD1 (power), 97 AVDD1 (power), 98 AGND (power), 99 AGND (power), 100 AGND (power), 101 EP (power)
text: CMOS; MODE